# Altium integrated library Atmel Microcontroller ARM.IntLib: 148 symbols (part 10 of 11)
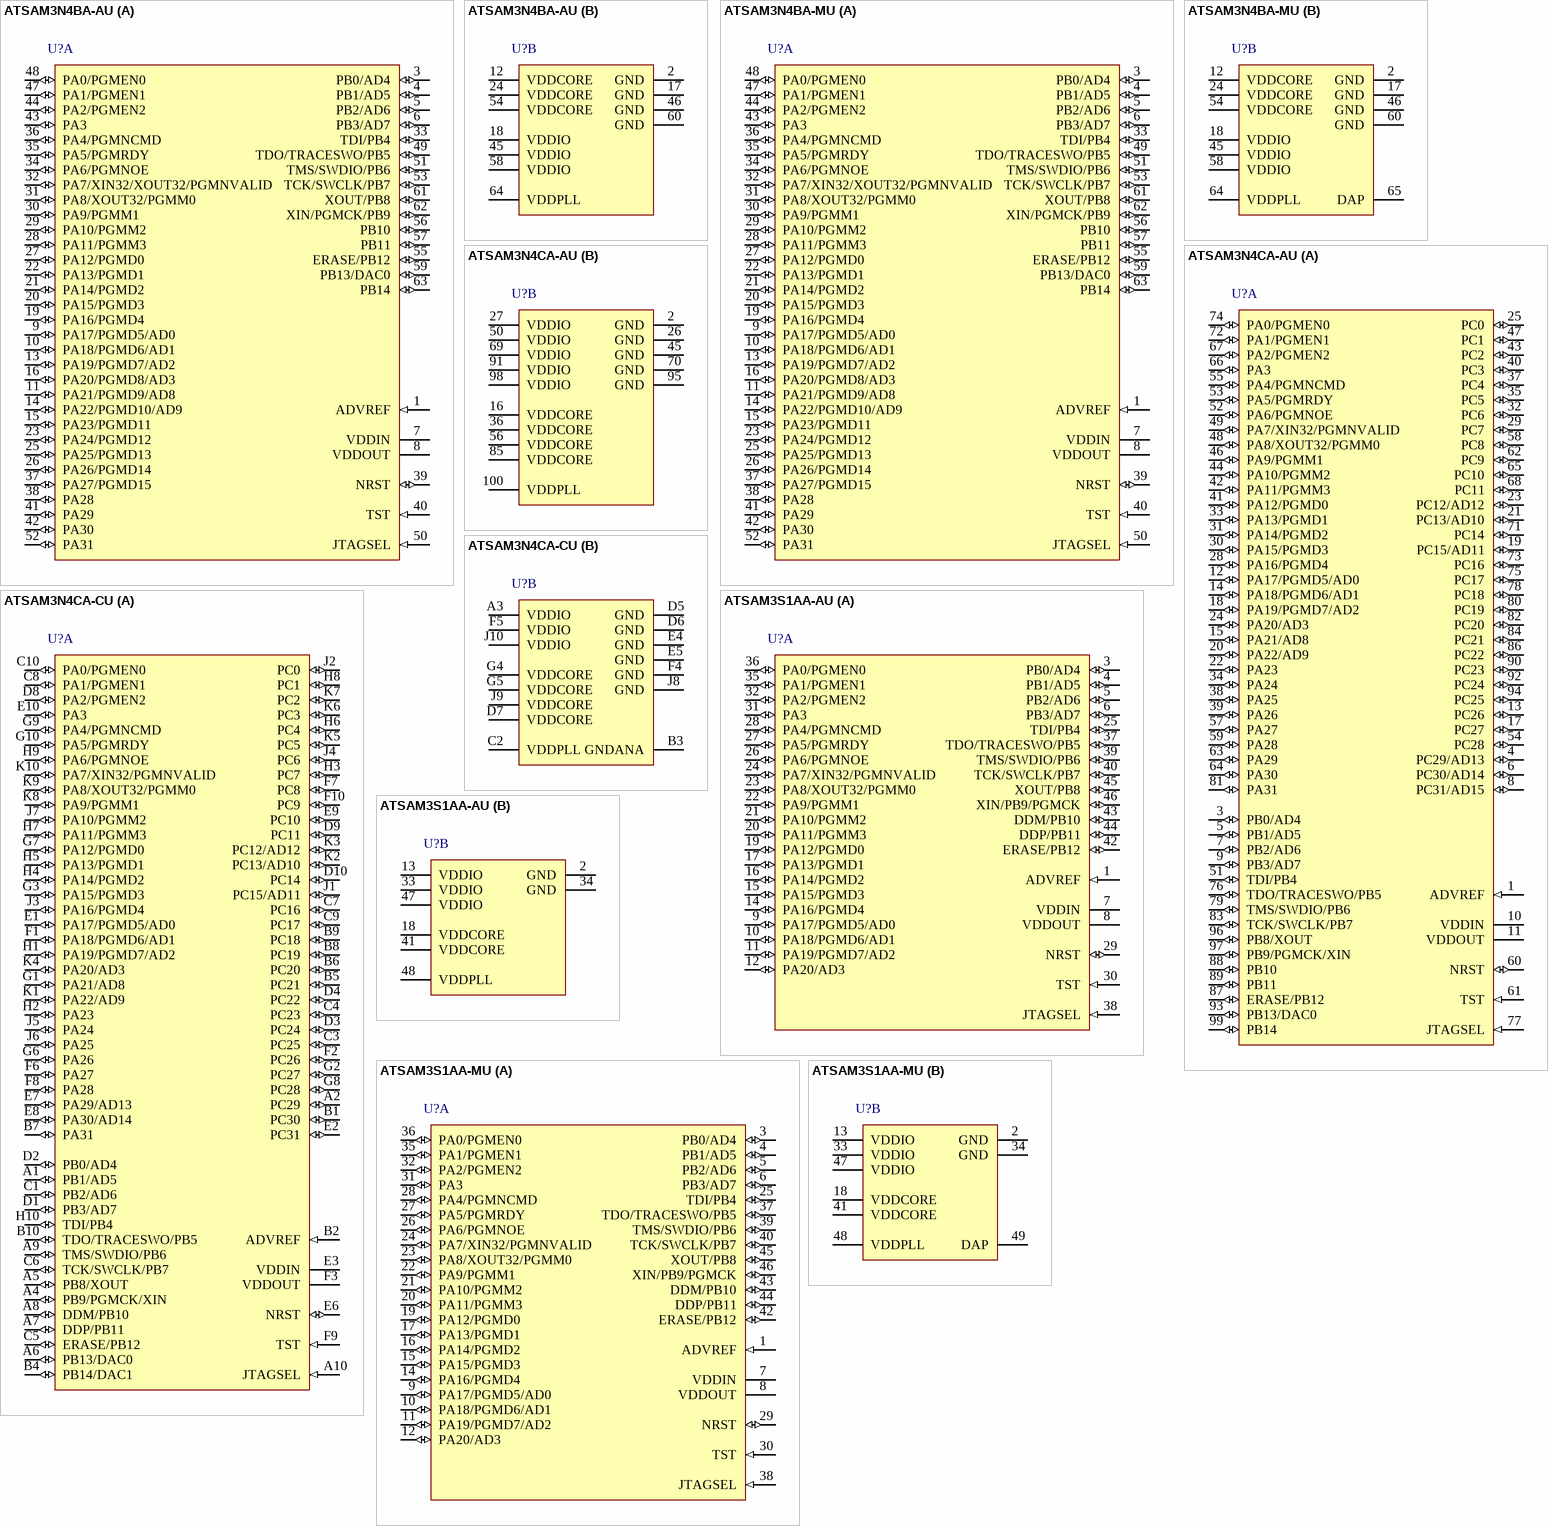
[diagram p70: symbols ATSAM3N4BA-AU to ATSAM3S1AA-MU]

## ATSAM3N4BA-MU
designator U?
AT91 ARM Cortex-M3 32-bit Microcontroller, 256KB Flash, 24KB SRAM, 10-ch. ADC, 47 User I/Os, 64-Pin QFN, Industrial Grade (-40°C to 85°C), Pb-Free; DatasheetVersion: revA, Nov-2010; PackageVersion: Apr-2006; PackageReference: QFN64; PackageDescription: 64-Pin Quad Flat No-Lead 0.5 mm Pitch; Code_JEDEC: MO-220; ComponentLink1Description: Manufacturer URL; ComponentLink1URL: http://www.atmel.com/; ComponentLink2Description: SAM3N Series Datasheet; ComponentLink2URL: http://www.atmel.com/dyn/resources/prod_documents/doc11011.pdf; ComponentLink3Description: SAM3N Series Summary; ComponentLink3URL: http://www.atmel.com/dyn/resources/prod_documents/11011s.pdf
footprint QFN64_N (QFN, 64-Leads, Body 9x9mm, Pitch 0.5mm, Thermal Pad 7.3x7.3mm, IPC Medium Density)
footprint QFN64_L (QFN, 64-Leads, Body 9x9mm, Pitch 0.5mm, Thermal Pad 7.3x7.3mm, IPC High Density)
footprint QFN64_M (QFN, 64-Leads, Body 9x9mm, Pitch 0.5mm, Thermal Pad 7.3x7.3mm, IPC Low Density)
part A pins: 1 ADVREF (in), 3 PB0/AD4 (io), 4 PB1/AD5 (io), 5 PB2/AD6 (io), 6 PB3/AD7 (io), 7 VDDIN (power), 8 VDDOUT (power), 9 PA17/PGMD5/AD0 (io), 10 PA18/PGMD6/AD1 (io), 11 PA21/PGMD9/AD8 (io), 13 PA19/PGMD7/AD2 (io), 14 PA22/PGMD10/AD9 (io), 15 PA23/PGMD11 (io), 16 PA20/PGMD8/AD3 (io), 19 PA16/PGMD4 (io), 20 PA15/PGMD3 (io), 21 PA14/PGMD2 (io), 22 PA13/PGMD1 (io), 23 PA24/PGMD12 (io), 25 PA25/PGMD13 (io), 26 PA26/PGMD14 (io), 27 PA12/PGMD0 (io), 28 PA11/PGMM3 (io), 29 PA10/PGMM2 (io), 30 PA9/PGMM1 (io), 31 PA8/XOUT32/PGMM0 (io), 32 PA7/XIN32/XOUT32/PGMNVALID (io), 33 TDI/PB4 (io), 34 PA6/PGMNOE (io), 35 PA5/PGMRDY (io), 36 PA4/PGMNCMD (io), 37 PA27/PGMD15 (io), 38 PA28 (io), 39 NRST (io), 40 TST (in), 41 PA29 (io), 42 PA30 (io), 43 PA3 (io), 44 PA2/PGMEN2 (io), 47 PA1/PGMEN1 (io), 48 PA0/PGMEN0 (io), 49 TDO/TRACESWO/PB5 (io), 50 JTAGSEL (in), 51 TMS/SWDIO/PB6 (io), 52 PA31 (io), 53 TCK/SWCLK/PB7 (io), 55 ERASE/PB12 (io), 56 PB10 (io), 57 PB11 (io), 59 PB13/DAC0 (io), 61 XOUT/PB8 (io), 62 XIN/PGMCK/PB9 (io), 63 PB14 (io)
part B pins: 2 GND (power), 12 VDDCORE (power), 17 GND (power), 18 VDDIO (power), 24 VDDCORE (power), 45 VDDIO (power), 46 GND (power), 54 VDDCORE (power), 58 VDDIO (power), 60 GND (power), 64 VDDPLL (power), 65 DAP (power)

## ATSAM3N4CA-AU
designator U?
AT91 ARM Cortex-M3 32-bit Microcontroller, 256KB Flash, 24KB SRAM, 16-ch. ADC, 79 User I/Os, 100-Pin LQFP, Industrial Grade (-40°C to 85°C), Pb-Free; DatasheetVersion: revA, Nov-2010; PackageVersion: Apr-2006; PackageReference: LQFP100; PackageDescription: 100-Pin Thin Quad Flat Pack 0.5 mm Pitch; Code_JEDEC: MS-026-BED; ComponentLink1Description: Manufacturer URL; ComponentLink1URL: http://www.atmel.com/; ComponentLink2Description: SAM3N Series Datasheet; ComponentLink2URL: http://www.atmel.com/dyn/resources/prod_documents/doc11011.pdf; ComponentLink3Description: SAM3N Series Summary; ComponentLink3URL: http://www.atmel.com/dyn/resources/prod_documents/11011s.pdf
footprint LQFP100_N (Thin QFP, 100-Leads, Body 14x14mm, Pitch 0.5mm, IPC Medium Density)
footprint LQFP100_L (Thin QFP, 100-Leads, Body 14x14mm, Pitch 0.5mm, IPC High Density)
footprint LQFP100_M (Thin QFP, 100-Leads, Body 14x14mm, Pitch 0.5mm, IPC Low Density)
part A pins: 1 ADVREF (in), 3 PB0/AD4 (io), 4 PC29/AD13 (io), 5 PB1/AD5 (io), 6 PC30/AD14 (io), 7 PB2/AD6 (io), 8 PC31/AD15 (io), 9 PB3/AD7 (io), 10 VDDIN (power), 11 VDDOUT (power), 12 PA17/PGMD5/AD0 (io), 13 PC26 (io), 14 PA18/PGMD6/AD1 (io), 15 PA21/AD8 (io), 17 PC27 (io), 18 PA19/PGMD7/AD2 (io), 19 PC15/AD11 (io), 20 PA22/AD9 (io), 21 PC13/AD10 (io), 22 PA23 (io), 23 PC12/AD12 (io), 24 PA20/AD3 (io), 25 PC0 (io), 28 PA16/PGMD4 (io), 29 PC7 (io), 30 PA15/PGMD3 (io), 31 PA14/PGMD2 (io), 32 PC6 (io), 33 PA13/PGMD1 (io), 34 PA24 (io), 35 PC5 (io), 37 PC4 (io), 38 PA25 (io), 39 PA26 (io), 40 PC3 (io), 41 PA12/PGMD0 (io), 42 PA11/PGMM3 (io), 43 PC2 (io), 44 PA10/PGMM2 (io), 46 PA9/PGMM1 (io), 47 PC1 (io), 48 PA8/XOUT32/PGMM0 (io), 49 PA7/XIN32/PGMNVALID (io), 51 TDI/PB4 (io), 52 PA6/PGMNOE (io), 53 PA5/PGMRDY (io), 54 PC28 (io), 55 PA4/PGMNCMD (io), 57 PA27 (io), 58 PC8 (io), 59 PA28 (io), 60 NRST (io), 61 TST (in), 62 PC9 (io), 63 PA29 (io), 64 PA30 (io), 65 PC10 (io), 66 PA3 (io), 67 PA2/PGMEN2 (io), 68 PC11 (io), 71 PC14 (io), 72 PA1/PGMEN1 (io), 73 PC16 (io), 74 PA0/PGMEN0 (io), 75 PC17 (io), 76 TDO/TRACESWO/PB5 (io), 77 JTAGSEL (in), 78 PC18 (io), 79 TMS/SWDIO/PB6 (io), 80 PC19 (io), 81 PA31 (io), 82 PC20 (io), 83 TCK/SWCLK/PB7 (io), 84 PC21 (io), 86 PC22 (io), 87 ERASE/PB12 (io), 88 PB10 (io), 89 PB11 (io), 90 PC23 (io), 92 PC24 (io), 93 PB13/DAC0 (io), 94 PC25 (io), 96 PB8/XOUT (io), 97 PB9/PGMCK/XIN (io), 99 PB14 (io)
part B pins: 2 GND (power), 16 VDDCORE (power), 26 GND (power), 27 VDDIO (power), 36 VDDCORE (power), 45 GND (power), 50 VDDIO (power), 56 VDDCORE (power), 69 VDDIO (power), 70 GND (power), 85 VDDCORE (power), 91 VDDIO (power), 95 GND (power), 98 VDDIO (power), 100 VDDPLL (power)

## ATSAM3N4CA-CU
designator U?
AT91 ARM Cortex-M3 32-bit Microcontroller, 256KB Flash, 24KB SRAM, 16-ch. ADC, 79 User I/Os, 100-Pin LFBGA, Industrial Grade (-40°C to 85°C), Pb-Free; DatasheetVersion: revA, Nov-2010; PackageVersion: 2004; PackageReference: TFBGA100; PackageDescription: 100-Ball Thin Fine Ball Grid Array, 9 x 9 x1.1 mm Body, 0.80 mm Pitch; ComponentLink1Description: Manufacturer URL; ComponentLink1URL: http://www.atmel.com/; ComponentLink2Description: SAM3N Series Datasheet; ComponentLink2URL: http://www.atmel.com/dyn/resources/prod_documents/doc11011.pdf; ComponentLink3Description: SAM3N Series Summary; ComponentLink3URL: http://www.atmel.com/dyn/resources/prod_documents/11011s.pdf
footprint TFBGA100 (BGA, 100-Leads, Body 9x9mm, Pitch 0.8mm)
part A pins: A1 PB1/AD5 (io), A2 PC29 (io), A4 PB9/PGMCK/XIN (io), A5 PB8/XOUT (io), A6 PB13/DAC0 (io), A7 DDP/PB11 (io), A8 DDM/PB10 (io), A9 TMS/SWDIO/PB6 (io), A10 JTAGSEL (in), B1 PC30 (io), B2 ADVREF (in), B4 PB14/DAC1 (io), B5 PC21 (io), B6 PC20 (io), B7 PA31 (io), B8 PC19 (io), B9 PC18 (io), B10 TDO/TRACESWO/PB5 (io), C1 PB2/AD6 (io), C3 PC25 (io), C4 PC23 (io), C5 ERASE/PB12 (io), C6 TCK/SWCLK/PB7 (io), C7 PC16 (io), C8 PA1/PGMEN1 (io), C9 PC17 (io), C10 PA0/PGMEN0 (io), D1 PB3/AD7 (io), D2 PB0/AD4 (io), D3 PC24 (io), D4 PC22 (io), D8 PA2/PGMEN2 (io), D9 PC11 (io), D10 PC14 (io), E1 PA17/PGMD5/AD0 (io), E2 PC31 (io), E3 VDDIN (power), E6 NRST (io), E7 PA29/AD13 (io), E8 PA30/AD14 (io), E9 PC10 (io), E10 PA3 (io), F1 PA18/PGMD6/AD1 (io), F2 PC26 (io), F3 VDDOUT (power), F6 PA27 (io), F7 PC8 (io), F8 PA28 (io), F9 TST (in), F10 PC9 (io), G1 PA21/AD8 (io), G2 PC27 (io), G3 PA15/PGMD3 (io), G6 PA26 (io), G7 PA12/PGMD0 (io), G8 PC28 (io), G9 PA4/PGMNCMD (io), G10 PA5/PGMRDY (io), H1 PA19/PGMD7/AD2 (io), H2 PA23 (io), H3 PC7 (io), H4 PA14/PGMD2 (io), H5 PA13/PGMD1 (io), H6 PC4 (io), H7 PA11/PGMM3 (io), H8 PC1 (io), H9 PA6/PGMNOE (io), H10 TDI/PB4 (io), J1 PC15/AD11 (io), J2 PC0 (io), J3 PA16/PGMD4 (io), J4 PC6 (io), J5 PA24 (io), J6 PA25 (io), J7 PA10/PGMM2 (io), K1 PA22/AD9 (io), K2 PC13/AD10 (io), K3 PC12/AD12 (io), K4 PA20/AD3 (io), K5 PC5 (io), K6 PC3 (io), K7 PC2 (io), K8 PA9/PGMM1 (io), K9 PA8/XOUT32/PGMM0 (io), K10 PA7/XIN32/PGMNVALID (io)
part B pins: A3 VDDIO (power), B3 GNDANA (power), C2 VDDPLL (power), D5 GND (power), D6 GND (power), D7 VDDCORE (power), E4 GND (power), E5 GND (power), F4 GND (power), F5 VDDIO (power), G4 VDDCORE (power), G5 VDDCORE (power), J8 GND (power), J9 VDDCORE (power), J10 VDDIO (power)

## ATSAM3S1AA-AU
designator U?
AT91 ARM Cortex-M3 32-bit Microcontroller, 64KB Flash, 16KB SRAM, 8-ch. ADC, 34 User I/Os, 48-Pin LQFP, Industrial Grade (-40°C to 85°C), Pb-Free; DatasheetVersion: revC, Feb-2011; PackageVersion: revC, Oct-2001; PackageReference: 48AA; PackageDescription: 48-Pin Plastic Low Profile Quad Flat Pack (LQFP), 7 x 7 x 1.4 mm Body, 0.5 mm Pitch; Code_JEDEC: MS-026-BBC; ComponentLink1Description: Manufacturer URL; ComponentLink1URL: http://www.atmel.com/; ComponentLink2Description: SAM3S Series Datasheet; ComponentLink2URL: http://www.atmel.com/dyn/resources/prod_documents/doc6500.pdf; ComponentLink3Description: SAM3S Series Summary; ComponentLink3URL: http://www.atmel.com/dyn/resources/prod_documents/6500s.pdf
footprint 48AA_N (Thin QFP, 48-Leads, Body 7x7mm, Pitch 0.5mm, IPC Medium Density)
footprint 48AA_L (Thin QFP, 48-Leads, Body 7x7mm, Pitch 0.5mm, IPC High Density)
footprint 48AA_M (Thin QFP, 48-Leads, Body 7x7mm, Pitch 0.5mm, IPC Low Density)
part A pins: 1 ADVREF (in), 3 PB0/AD4 (io), 4 PB1/AD5 (io), 5 PB2/AD6 (io), 6 PB3/AD7 (io), 7 VDDIN (power), 8 VDDOUT (power), 9 PA17/PGMD5/AD0 (io), 10 PA18/PGMD6/AD1 (io), 11 PA19/PGMD7/AD2 (io), 12 PA20/AD3 (io), 14 PA16/PGMD4 (io), 15 PA15/PGMD3 (io), 16 PA14/PGMD2 (io), 17 PA13/PGMD1 (io), 19 PA12/PGMD0 (io), 20 PA11/PGMM3 (io), 21 PA10/PGMM2 (io), 22 PA9/PGMM1 (io), 23 PA8/XOUT32/PGMM0 (io), 24 PA7/XIN32/PGMNVALID (io), 25 TDI/PB4 (io), 26 PA6/PGMNOE (io), 27 PA5/PGMRDY (io), 28 PA4/PGMNCMD (io), 29 NRST (io), 30 TST (in), 31 PA3 (io), 32 PA2/PGMEN2 (io), 35 PA1/PGMEN1 (io), 36 PA0/PGMEN0 (io), 37 TDO/TRACESWO/PB5 (io), 38 JTAGSEL (in), 39 TMS/SWDIO/PB6 (io), 40 TCK/SWCLK/PB7 (io), 42 ERASE/PB12 (io), 43 DDM/PB10 (io), 44 DDP/PB11 (io), 45 XOUT/PB8 (io), 46 XIN/PB9/PGMCK (io)
part B pins: 2 GND (power), 13 VDDIO (power), 18 VDDCORE (power), 33 VDDIO (power), 34 GND (power), 41 VDDCORE (power), 47 VDDIO (power), 48 VDDPLL (power)

## ATSAM3S1AA-MU
designator U?
AT91 ARM Cortex-M3 32-bit Microcontroller, 64KB Flash, 16KB SRAM, 8-ch. ADC, 34 User I/Os, 48-Pin QFN, Industrial Grade (-40°C to 85°C), Pb-Free; DatasheetVersion: revC, Feb-2011; PackageVersion: Apr-2006; PackageReference: QFN48; PackageDescription: 48-Pin Quad Flat No-Lead 0.5 mm Pitch; ComponentLink1Description: Manufacturer URL; ComponentLink1URL: http://www.atmel.com/; ComponentLink2Description: SAM3S Series Datasheet; ComponentLink2URL: http://www.atmel.com/dyn/resources/prod_documents/doc6500.pdf; ComponentLink3Description: SAM3S Series Summary; ComponentLink3URL: http://www.atmel.com/dyn/resources/prod_documents/6500s.pdf
footprint QFN48_N (QFN, 48-Leads, Body 7x7mm, Pitch 0.5mm, Thermal Pad 5.8x5.8mm, IPC Medium Density)
footprint QFN48_L (QFN, 48-Leads, Body 7x7mm, Pitch 0.5mm, Thermal Pad 5.8x5.8mm, IPC High Density)
footprint QFN48_M (QFN, 48-Leads, Body 7x7mm, Pitch 0.5mm, Thermal Pad 5.8x5.8mm, IPC Low Density)
part A pins: 1 ADVREF (in), 3 PB0/AD4 (io), 4 PB1/AD5 (io), 5 PB2/AD6 (io), 6 PB3/AD7 (io), 7 VDDIN (power), 8 VDDOUT (power), 9 PA17/PGMD5/AD0 (io), 10 PA18/PGMD6/AD1 (io), 11 PA19/PGMD7/AD2 (io), 12 PA20/AD3 (io), 14 PA16/PGMD4 (io), 15 PA15/PGMD3 (io), 16 PA14/PGMD2 (io), 17 PA13/PGMD1 (io), 19 PA12/PGMD0 (io), 20 PA11/PGMM3 (io), 21 PA10/PGMM2 (io), 22 PA9/PGMM1 (io), 23 PA8/XOUT32/PGMM0 (io), 24 PA7/XIN32/PGMNVALID (io), 25 TDI/PB4 (io), 26 PA6/PGMNOE (io), 27 PA5/PGMRDY (io), 28 PA4/PGMNCMD (io), 29 NRST (io), 30 TST (in), 31 PA3 (io), 32 PA2/PGMEN2 (io), 35 PA1/PGMEN1 (io), 36 PA0/PGMEN0 (io), 37 TDO/TRACESWO/PB5 (io), 38 JTAGSEL (in), 39 TMS/SWDIO/PB6 (io), 40 TCK/SWCLK/PB7 (io), 42 ERASE/PB12 (io), 43 DDM/PB10 (io), 44 DDP/PB11 (io), 45 XOUT/PB8 (io), 46 XIN/PB9/PGMCK (io)
part B pins: 2 GND (power), 13 VDDIO (power), 18 VDDCORE (power), 33 VDDIO (power), 34 GND (power), 41 VDDCORE (power), 47 VDDIO (power), 48 VDDPLL (power), 49 DAP (power)

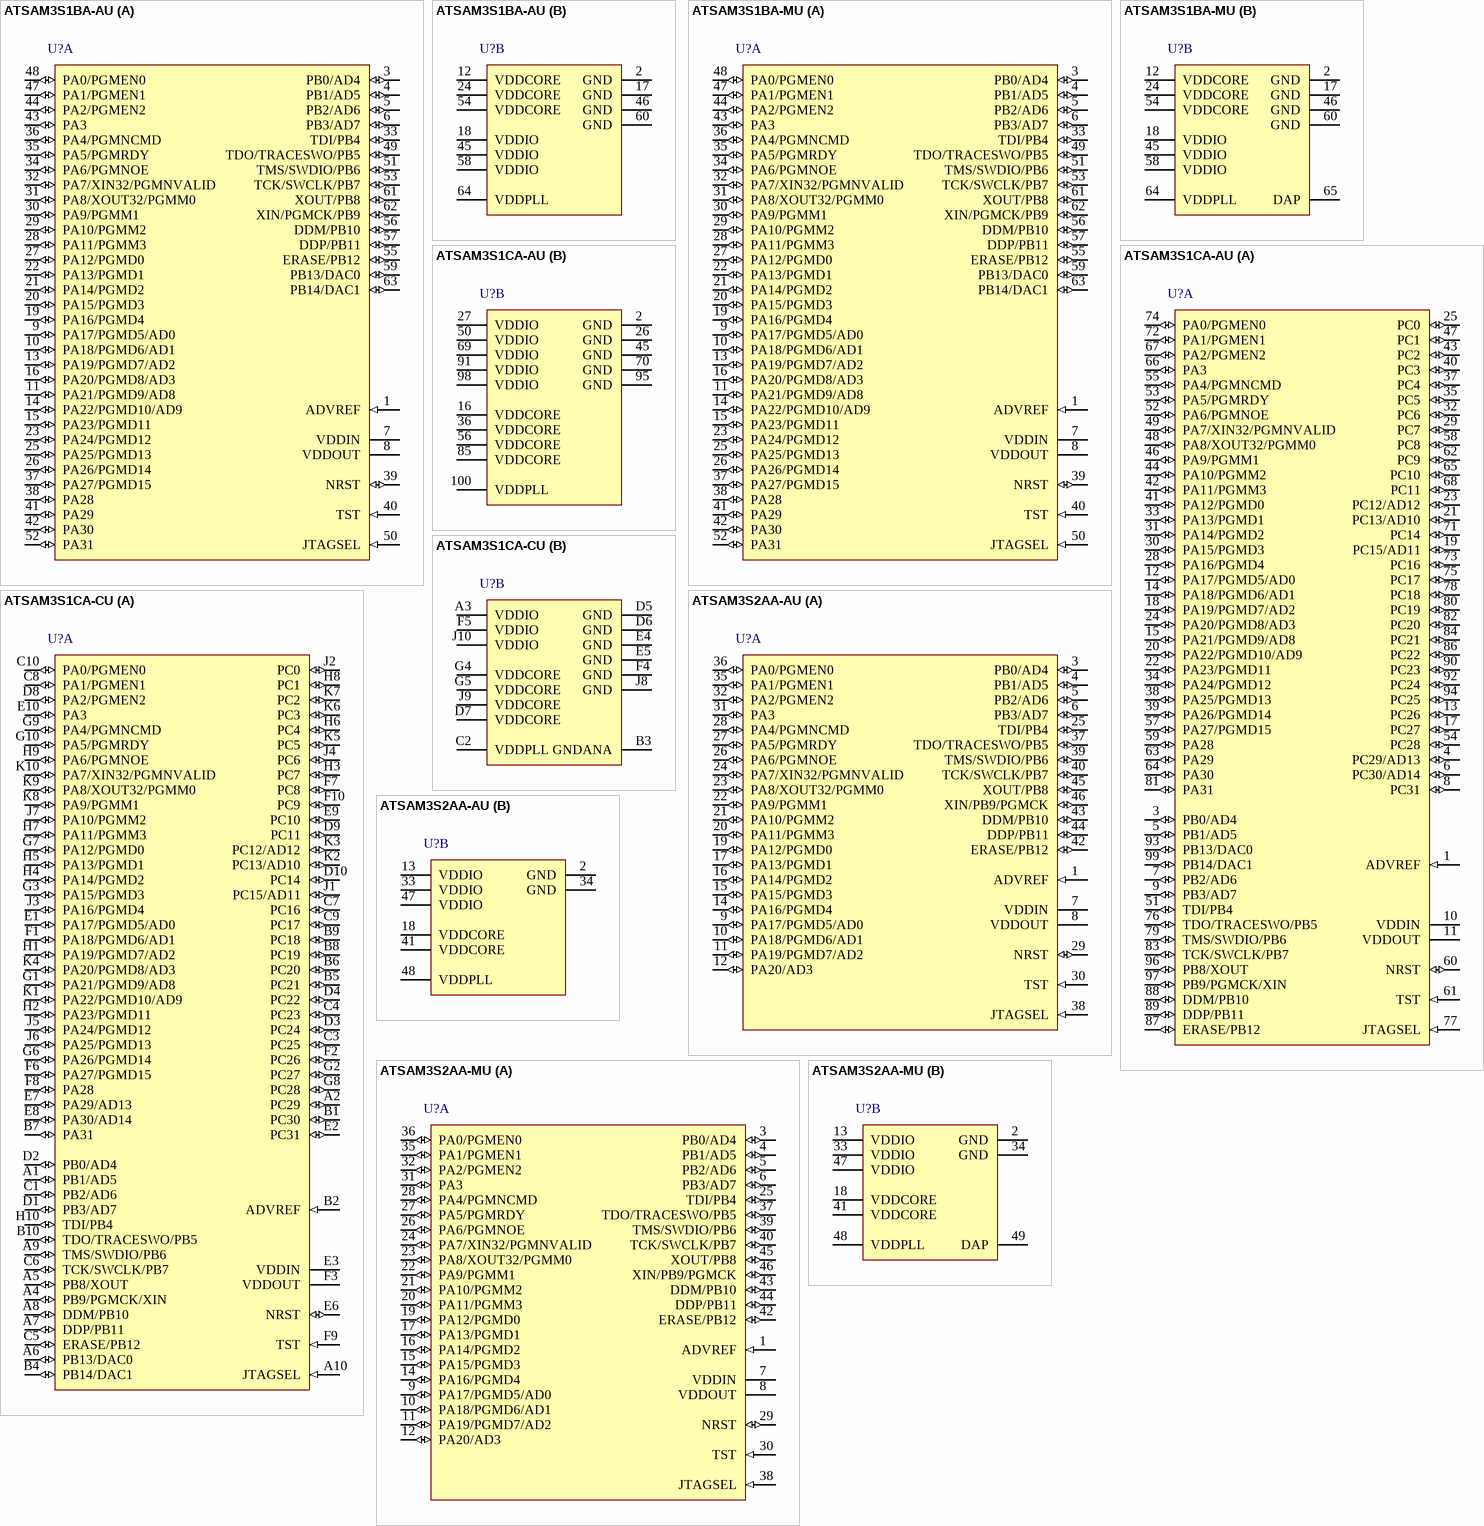
[diagram p55: symbols ATSAM3S1BA-AU to ATSAM3S2AA-MU]

## ATSAM3S1BA-AU
designator U?
AT91 ARM Cortex-M3 32-bit Microcontroller, 64KB Flash, 16KB SRAM, 10-ch. ADC, 47 User I/Os, 64-Pin LQFP, Industrial Grade (-40°C to 85°C), Pb-Free; DatasheetVersion: revC, Feb-2011; PackageVersion: Apr-2006; PackageReference: LQFP64; PackageDescription: 64-Pin Thin Quad Flat Pack 0.5 mm Pitch; Code_JEDEC: MS-026-BCD; ComponentLink1Description: Manufacturer URL; ComponentLink1URL: http://www.atmel.com/; ComponentLink2Description: SAM3S Series Datasheet; ComponentLink2URL: http://www.atmel.com/dyn/resources/prod_documents/doc6500.pdf; ComponentLink3Description: SAM3S Series Summary; ComponentLink3URL: http://www.atmel.com/dyn/resources/prod_documents/6500s.pdf
footprint LQFP64_N (Thin QFP, 64-Leads, Body 10x10mm, Pitch 0.5mm, IPC Medium Density)
footprint LQFP64_L (Thin QFP, 64-Leads, Body 10x10mm, Pitch 0.5mm, IPC High Density)
footprint LQFP64_M (Thin QFP, 64-Leads, Body 10x10mm, Pitch 0.5mm, IPC Low Density)
part A pins: 1 ADVREF (in), 3 PB0/AD4 (io), 4 PB1/AD5 (io), 5 PB2/AD6 (io), 6 PB3/AD7 (io), 7 VDDIN (power), 8 VDDOUT (power), 9 PA17/PGMD5/AD0 (io), 10 PA18/PGMD6/AD1 (io), 11 PA21/PGMD9/AD8 (io), 13 PA19/PGMD7/AD2 (io), 14 PA22/PGMD10/AD9 (io), 15 PA23/PGMD11 (io), 16 PA20/PGMD8/AD3 (io), 19 PA16/PGMD4 (io), 20 PA15/PGMD3 (io), 21 PA14/PGMD2 (io), 22 PA13/PGMD1 (io), 23 PA24/PGMD12 (io), 25 PA25/PGMD13 (io), 26 PA26/PGMD14 (io), 27 PA12/PGMD0 (io), 28 PA11/PGMM3 (io), 29 PA10/PGMM2 (io), 30 PA9/PGMM1 (io), 31 PA8/XOUT32/PGMM0 (io), 32 PA7/XIN32/PGMNVALID (io), 33 TDI/PB4 (io), 34 PA6/PGMNOE (io), 35 PA5/PGMRDY (io), 36 PA4/PGMNCMD (io), 37 PA27/PGMD15 (io), 38 PA28 (io), 39 NRST (io), 40 TST (in), 41 PA29 (io), 42 PA30 (io), 43 PA3 (io), 44 PA2/PGMEN2 (io), 47 PA1/PGMEN1 (io), 48 PA0/PGMEN0 (io), 49 TDO/TRACESWO/PB5 (io), 50 JTAGSEL (in), 51 TMS/SWDIO/PB6 (io), 52 PA31 (io), 53 TCK/SWCLK/PB7 (io), 55 ERASE/PB12 (io), 56 DDM/PB10 (io), 57 DDP/PB11 (io), 59 PB13/DAC0 (io), 61 XOUT/PB8 (io), 62 XIN/PGMCK/PB9 (io), 63 PB14/DAC1 (io)
part B pins: 2 GND (power), 12 VDDCORE (power), 17 GND (power), 18 VDDIO (power), 24 VDDCORE (power), 45 VDDIO (power), 46 GND (power), 54 VDDCORE (power), 58 VDDIO (power), 60 GND (power), 64 VDDPLL (power)

## ATSAM3S1BA-MU
designator U?
AT91 ARM Cortex-M3 32-bit Microcontroller, 64KB Flash, 16KB SRAM, 10-ch. ADC, 47 User I/Os, 64-Pin QFN, Industrial Grade (-40°C to 85°C), Pb-Free; DatasheetVersion: revC, Feb-2011; PackageVersion: Apr-2006; PackageReference: QFN64; PackageDescription: 64-Pin Quad Flat No-Lead 0.5 mm Pitch; Code_JEDEC: MO-220; ComponentLink1Description: Manufacturer URL; ComponentLink1URL: http://www.atmel.com/; ComponentLink2Description: SAM3S Series Datasheet; ComponentLink2URL: http://www.atmel.com/dyn/resources/prod_documents/doc6500.pdf; ComponentLink3Description: SAM3S Series Summary; ComponentLink3URL: http://www.atmel.com/dyn/resources/prod_documents/6500s.pdf
footprint QFN64_N (QFN, 64-Leads, Body 9x9mm, Pitch 0.5mm, Thermal Pad 7.3x7.3mm, IPC Medium Density)
footprint QFN64_L (QFN, 64-Leads, Body 9x9mm, Pitch 0.5mm, Thermal Pad 7.3x7.3mm, IPC High Density)
footprint QFN64_M (QFN, 64-Leads, Body 9x9mm, Pitch 0.5mm, Thermal Pad 7.3x7.3mm, IPC Low Density)
part A pins: 1 ADVREF (in), 3 PB0/AD4 (io), 4 PB1/AD5 (io), 5 PB2/AD6 (io), 6 PB3/AD7 (io), 7 VDDIN (power), 8 VDDOUT (power), 9 PA17/PGMD5/AD0 (io), 10 PA18/PGMD6/AD1 (io), 11 PA21/PGMD9/AD8 (io), 13 PA19/PGMD7/AD2 (io), 14 PA22/PGMD10/AD9 (io), 15 PA23/PGMD11 (io), 16 PA20/PGMD8/AD3 (io), 19 PA16/PGMD4 (io), 20 PA15/PGMD3 (io), 21 PA14/PGMD2 (io), 22 PA13/PGMD1 (io), 23 PA24/PGMD12 (io), 25 PA25/PGMD13 (io), 26 PA26/PGMD14 (io), 27 PA12/PGMD0 (io), 28 PA11/PGMM3 (io), 29 PA10/PGMM2 (io), 30 PA9/PGMM1 (io), 31 PA8/XOUT32/PGMM0 (io), 32 PA7/XIN32/PGMNVALID (io), 33 TDI/PB4 (io), 34 PA6/PGMNOE (io), 35 PA5/PGMRDY (io), 36 PA4/PGMNCMD (io), 37 PA27/PGMD15 (io), 38 PA28 (io), 39 NRST (io), 40 TST (in), 41 PA29 (io), 42 PA30 (io), 43 PA3 (io), 44 PA2/PGMEN2 (io), 47 PA1/PGMEN1 (io), 48 PA0/PGMEN0 (io), 49 TDO/TRACESWO/PB5 (io), 50 JTAGSEL (in), 51 TMS/SWDIO/PB6 (io), 52 PA31 (io), 53 TCK/SWCLK/PB7 (io), 55 ERASE/PB12 (io), 56 DDM/PB10 (io), 57 DDP/PB11 (io), 59 PB13/DAC0 (io), 61 XOUT/PB8 (io), 62 XIN/PGMCK/PB9 (io), 63 PB14/DAC1 (io)
part B pins: 2 GND (power), 12 VDDCORE (power), 17 GND (power), 18 VDDIO (power), 24 VDDCORE (power), 45 VDDIO (power), 46 GND (power), 54 VDDCORE (power), 58 VDDIO (power), 60 GND (power), 64 VDDPLL (power), 65 DAP (power)

## ATSAM3S1CA-AU
designator U?
AT91 ARM Cortex-M3 32-bit Microcontroller, 64KB Flash, 16KB SRAM, 16-ch. ADC, 79 User I/Os, 100-Pin LQFP, Industrial Grade (-40°C to 85°C), Pb-Free; DatasheetVersion: revC, Feb-2011; PackageVersion: Apr-2006; PackageReference: LQFP100; PackageDescription: 100-Pin Thin Quad Flat Pack 0.5 mm Pitch; Code_JEDEC: MS-026-BED; ComponentLink1Description: Manufacturer URL; ComponentLink1URL: http://www.atmel.com/; ComponentLink2Description: SAM3S Series Datasheet; ComponentLink2URL: http://www.atmel.com/dyn/resources/prod_documents/doc6500.pdf; ComponentLink3Description: SAM3S Series Summary; ComponentLink3URL: http://www.atmel.com/dyn/resources/prod_documents/6500s.pdf
footprint LQFP100_N (Thin QFP, 100-Leads, Body 14x14mm, Pitch 0.5mm, IPC Medium Density)
footprint LQFP100_L (Thin QFP, 100-Leads, Body 14x14mm, Pitch 0.5mm, IPC High Density)
footprint LQFP100_M (Thin QFP, 100-Leads, Body 14x14mm, Pitch 0.5mm, IPC Low Density)
part A pins: 1 ADVREF (in), 3 PB0/AD4 (io), 4 PC29/AD13 (io), 5 PB1/AD5 (io), 6 PC30/AD14 (io), 7 PB2/AD6 (io), 8 PC31 (io), 9 PB3/AD7 (io), 10 VDDIN (power), 11 VDDOUT (power), 12 PA17/PGMD5/AD0 (io), 13 PC26 (io), 14 PA18/PGMD6/AD1 (io), 15 PA21/PGMD9/AD8 (io), 17 PC27 (io), 18 PA19/PGMD7/AD2 (io), 19 PC15/AD11 (io), 20 PA22/PGMD10/AD9 (io), 21 PC13/AD10 (io), 22 PA23/PGMD11 (io), 23 PC12/AD12 (io), 24 PA20/PGMD8/AD3 (io), 25 PC0 (io), 28 PA16/PGMD4 (io), 29 PC7 (io), 30 PA15/PGMD3 (io), 31 PA14/PGMD2 (io), 32 PC6 (io), 33 PA13/PGMD1 (io), 34 PA24/PGMD12 (io), 35 PC5 (io), 37 PC4 (io), 38 PA25/PGMD13 (io), 39 PA26/PGMD14 (io), 40 PC3 (io), 41 PA12/PGMD0 (io), 42 PA11/PGMM3 (io), 43 PC2 (io), 44 PA10/PGMM2 (io), 46 PA9/PGMM1 (io), 47 PC1 (io), 48 PA8/XOUT32/PGMM0 (io), 49 PA7/XIN32/PGMNVALID (io), 51 TDI/PB4 (io), 52 PA6/PGMNOE (io), 53 PA5/PGMRDY (io), 54 PC28 (io), 55 PA4/PGMNCMD (io), 57 PA27/PGMD15 (io), 58 PC8 (io), 59 PA28 (io), 60 NRST (io), 61 TST (in), 62 PC9 (io), 63 PA29 (io), 64 PA30 (io), 65 PC10 (io), 66 PA3 (io), 67 PA2/PGMEN2 (io), 68 PC11 (io), 71 PC14 (io), 72 PA1/PGMEN1 (io), 73 PC16 (io), 74 PA0/PGMEN0 (io), 75 PC17 (io), 76 TDO/TRACESWO/PB5 (io), 77 JTAGSEL (in), 78 PC18 (io), 79 TMS/SWDIO/PB6 (io), 80 PC19 (io), 81 PA31 (io), 82 PC20 (io), 83 TCK/SWCLK/PB7 (io), 84 PC21 (io), 86 PC22 (io), 87 ERASE/PB12 (io), 88 DDM/PB10 (io), 89 DDP/PB11 (io), 90 PC23 (io), 92 PC24 (io), 93 PB13/DAC0 (io), 94 PC25 (io), 96 PB8/XOUT (io), 97 PB9/PGMCK/XIN (io), 99 PB14/DAC1 (io)
part B pins: 2 GND (power), 16 VDDCORE (power), 26 GND (power), 27 VDDIO (power), 36 VDDCORE (power), 45 GND (power), 50 VDDIO (power), 56 VDDCORE (power), 69 VDDIO (power), 70 GND (power), 85 VDDCORE (power), 91 VDDIO (power), 95 GND (power), 98 VDDIO (power), 100 VDDPLL (power)

## ATSAM3S1CA-CU
designator U?
AT91 ARM Cortex-M3 32-bit Microcontroller, 64KB Flash, 16KB SRAM, 16-ch. ADC, 79 User I/Os, 100-Pin BGA, Industrial Grade (-40°C to 85°C), Pb-Free; DatasheetVersion: revC, Feb-2011; PackageVersion: 2004; PackageReference: TFBGA100; PackageDescription: 100-Ball Thin Fine Ball Grid Array, 9 x 9 x1.1 mm Body, 0.80 mm Pitch; ComponentLink1Description: Manufacturer URL; ComponentLink1URL: http://www.atmel.com/; ComponentLink2Description: SAM3S Series Datasheet; ComponentLink2URL: http://www.atmel.com/dyn/resources/prod_documents/doc6500.pdf; ComponentLink3Description: SAM3S Series Summary; ComponentLink3URL: http://www.atmel.com/dyn/resources/prod_documents/6500s.pdf
footprint TFBGA100 (BGA, 100-Leads, Body 9x9mm, Pitch 0.8mm)
part A pins: A1 PB1/AD5 (io), A2 PC29 (io), A4 PB9/PGMCK/XIN (io), A5 PB8/XOUT (io), A6 PB13/DAC0 (io), A7 DDP/PB11 (io), A8 DDM/PB10 (io), A9 TMS/SWDIO/PB6 (io), A10 JTAGSEL (in), B1 PC30 (io), B2 ADVREF (in), B4 PB14/DAC1 (io), B5 PC21 (io), B6 PC20 (io), B7 PA31 (io), B8 PC19 (io), B9 PC18 (io), B10 TDO/TRACESWO/PB5 (io), C1 PB2/AD6 (io), C3 PC25 (io), C4 PC23 (io), C5 ERASE/PB12 (io), C6 TCK/SWCLK/PB7 (io), C7 PC16 (io), C8 PA1/PGMEN1 (io), C9 PC17 (io), C10 PA0/PGMEN0 (io), D1 PB3/AD7 (io), D2 PB0/AD4 (io), D3 PC24 (io), D4 PC22 (io), D8 PA2/PGMEN2 (io), D9 PC11 (io), D10 PC14 (io), E1 PA17/PGMD5/AD0 (io), E2 PC31 (io), E3 VDDIN (power), E6 NRST (io), E7 PA29/AD13 (io), E8 PA30/AD14 (io), E9 PC10 (io), E10 PA3 (io), F1 PA18/PGMD6/AD1 (io), F2 PC26 (io), F3 VDDOUT (power), F6 PA27/PGMD15 (io), F7 PC8 (io), F8 PA28 (io), F9 TST (in), F10 PC9 (io), G1 PA21/PGMD9/AD8 (io), G2 PC27 (io), G3 PA15/PGMD3 (io), G6 PA26/PGMD14 (io), G7 PA12/PGMD0 (io), G8 PC28 (io), G9 PA4/PGMNCMD (io), G10 PA5/PGMRDY (io), H1 PA19/PGMD7/AD2 (io), H2 PA23/PGMD11 (io), H3 PC7 (io), H4 PA14/PGMD2 (io), H5 PA13/PGMD1 (io), H6 PC4 (io), H7 PA11/PGMM3 (io), H8 PC1 (io), H9 PA6/PGMNOE (io), H10 TDI/PB4 (io), J1 PC15/AD11 (io), J2 PC0 (io), J3 PA16/PGMD4 (io), J4 PC6 (io), J5 PA24/PGMD12 (io), J6 PA25/PGMD13 (io), J7 PA10/PGMM2 (io), K1 PA22/PGMD10/AD9 (io), K2 PC13/AD10 (io), K3 PC12/AD12 (io), K4 PA20/PGMD8/AD3 (io), K5 PC5 (io), K6 PC3 (io), K7 PC2 (io), K8 PA9/PGMM1 (io), K9 PA8/XOUT32/PGMM0 (io), K10 PA7/XIN32/PGMNVALID (io)
part B pins: A3 VDDIO (power), B3 GNDANA (power), C2 VDDPLL (power), D5 GND (power), D6 GND (power), D7 VDDCORE (power), E4 GND (power), E5 GND (power), F4 GND (power), F5 VDDIO (power), G4 VDDCORE (power), G5 VDDCORE (power), J8 GND (power), J9 VDDCORE (power), J10 VDDIO (power)

## ATSAM3S2AA-AU
designator U?
AT91 ARM Cortex-M3 32-bit Microcontroller, 128KB Flash, 32KB SRAM, 8-ch. ADC, 34 User I/Os, 48-Pin LQFP, Industrial Grade (-40°C to 85°C), Pb-Free; DatasheetVersion: revC, Feb-2011; PackageVersion: revC, Oct-2001; PackageReference: 48AA; PackageDescription: 48-Pin Plastic Low Profile Quad Flat Pack (LQFP), 7 x 7 x 1.4 mm Body, 0.5 mm Pitch; Code_JEDEC: MS-026-BBC; ComponentLink1Description: Manufacturer URL; ComponentLink1URL: http://www.atmel.com/; ComponentLink2Description: SAM3S Series Datasheet; ComponentLink2URL: http://www.atmel.com/dyn/resources/prod_documents/doc6500.pdf; ComponentLink3Description: SAM3S Series Summary; ComponentLink3URL: http://www.atmel.com/dyn/resources/prod_documents/6500s.pdf
footprint 48AA_N (Thin QFP, 48-Leads, Body 7x7mm, Pitch 0.5mm, IPC Medium Density)
footprint 48AA_L (Thin QFP, 48-Leads, Body 7x7mm, Pitch 0.5mm, IPC High Density)
footprint 48AA_M (Thin QFP, 48-Leads, Body 7x7mm, Pitch 0.5mm, IPC Low Density)
part A pins: 1 ADVREF (in), 3 PB0/AD4 (io), 4 PB1/AD5 (io), 5 PB2/AD6 (io), 6 PB3/AD7 (io), 7 VDDIN (power), 8 VDDOUT (power), 9 PA17/PGMD5/AD0 (io), 10 PA18/PGMD6/AD1 (io), 11 PA19/PGMD7/AD2 (io), 12 PA20/AD3 (io), 14 PA16/PGMD4 (io), 15 PA15/PGMD3 (io), 16 PA14/PGMD2 (io), 17 PA13/PGMD1 (io), 19 PA12/PGMD0 (io), 20 PA11/PGMM3 (io), 21 PA10/PGMM2 (io), 22 PA9/PGMM1 (io), 23 PA8/XOUT32/PGMM0 (io), 24 PA7/XIN32/PGMNVALID (io), 25 TDI/PB4 (io), 26 PA6/PGMNOE (io), 27 PA5/PGMRDY (io), 28 PA4/PGMNCMD (io), 29 NRST (io), 30 TST (in), 31 PA3 (io), 32 PA2/PGMEN2 (io), 35 PA1/PGMEN1 (io), 36 PA0/PGMEN0 (io), 37 TDO/TRACESWO/PB5 (io), 38 JTAGSEL (in), 39 TMS/SWDIO/PB6 (io), 40 TCK/SWCLK/PB7 (io), 42 ERASE/PB12 (io), 43 DDM/PB10 (io), 44 DDP/PB11 (io), 45 XOUT/PB8 (io), 46 XIN/PB9/PGMCK (io)
part B pins: 2 GND (power), 13 VDDIO (power), 18 VDDCORE (power), 33 VDDIO (power), 34 GND (power), 41 VDDCORE (power), 47 VDDIO (power), 48 VDDPLL (power)

## ATSAM3S2AA-MU
designator U?
AT91 ARM Cortex-M3 32-bit Microcontroller, 128KB Flash, 32KB SRAM, 8-ch. ADC, 34 User I/Os, 48-Pin QFN, Industrial Grade (-40°C to 85°C), Pb-Free; DatasheetVersion: revC, Feb-2011; PackageVersion: Apr-2006; PackageReference: QFN48; PackageDescription: 48-Pin Quad Flat No-Lead 0.5 mm Pitch; ComponentLink1Description: Manufacturer URL; ComponentLink1URL: http://www.atmel.com/; ComponentLink2Description: SAM3S Series Datasheet; ComponentLink2URL: http://www.atmel.com/dyn/resources/prod_documents/doc6500.pdf; ComponentLink3Description: SAM3S Series Summary; ComponentLink3URL: http://www.atmel.com/dyn/resources/prod_documents/6500s.pdf
footprint QFN48_N (QFN, 48-Leads, Body 7x7mm, Pitch 0.5mm, Thermal Pad 5.8x5.8mm, IPC Medium Density)
footprint QFN48_L (QFN, 48-Leads, Body 7x7mm, Pitch 0.5mm, Thermal Pad 5.8x5.8mm, IPC High Density)
footprint QFN48_M (QFN, 48-Leads, Body 7x7mm, Pitch 0.5mm, Thermal Pad 5.8x5.8mm, IPC Low Density)
part A pins: 1 ADVREF (in), 3 PB0/AD4 (io), 4 PB1/AD5 (io), 5 PB2/AD6 (io), 6 PB3/AD7 (io), 7 VDDIN (power), 8 VDDOUT (power), 9 PA17/PGMD5/AD0 (io), 10 PA18/PGMD6/AD1 (io), 11 PA19/PGMD7/AD2 (io), 12 PA20/AD3 (io), 14 PA16/PGMD4 (io), 15 PA15/PGMD3 (io), 16 PA14/PGMD2 (io), 17 PA13/PGMD1 (io), 19 PA12/PGMD0 (io), 20 PA11/PGMM3 (io), 21 PA10/PGMM2 (io), 22 PA9/PGMM1 (io), 23 PA8/XOUT32/PGMM0 (io), 24 PA7/XIN32/PGMNVALID (io), 25 TDI/PB4 (io), 26 PA6/PGMNOE (io), 27 PA5/PGMRDY (io), 28 PA4/PGMNCMD (io), 29 NRST (io), 30 TST (in), 31 PA3 (io), 32 PA2/PGMEN2 (io), 35 PA1/PGMEN1 (io), 36 PA0/PGMEN0 (io), 37 TDO/TRACESWO/PB5 (io), 38 JTAGSEL (in), 39 TMS/SWDIO/PB6 (io), 40 TCK/SWCLK/PB7 (io), 42 ERASE/PB12 (io), 43 DDM/PB10 (io), 44 DDP/PB11 (io), 45 XOUT/PB8 (io), 46 XIN/PB9/PGMCK (io)
part B pins: 2 GND (power), 13 VDDIO (power), 18 VDDCORE (power), 33 VDDIO (power), 34 GND (power), 41 VDDCORE (power), 47 VDDIO (power), 48 VDDPLL (power), 49 DAP (power)

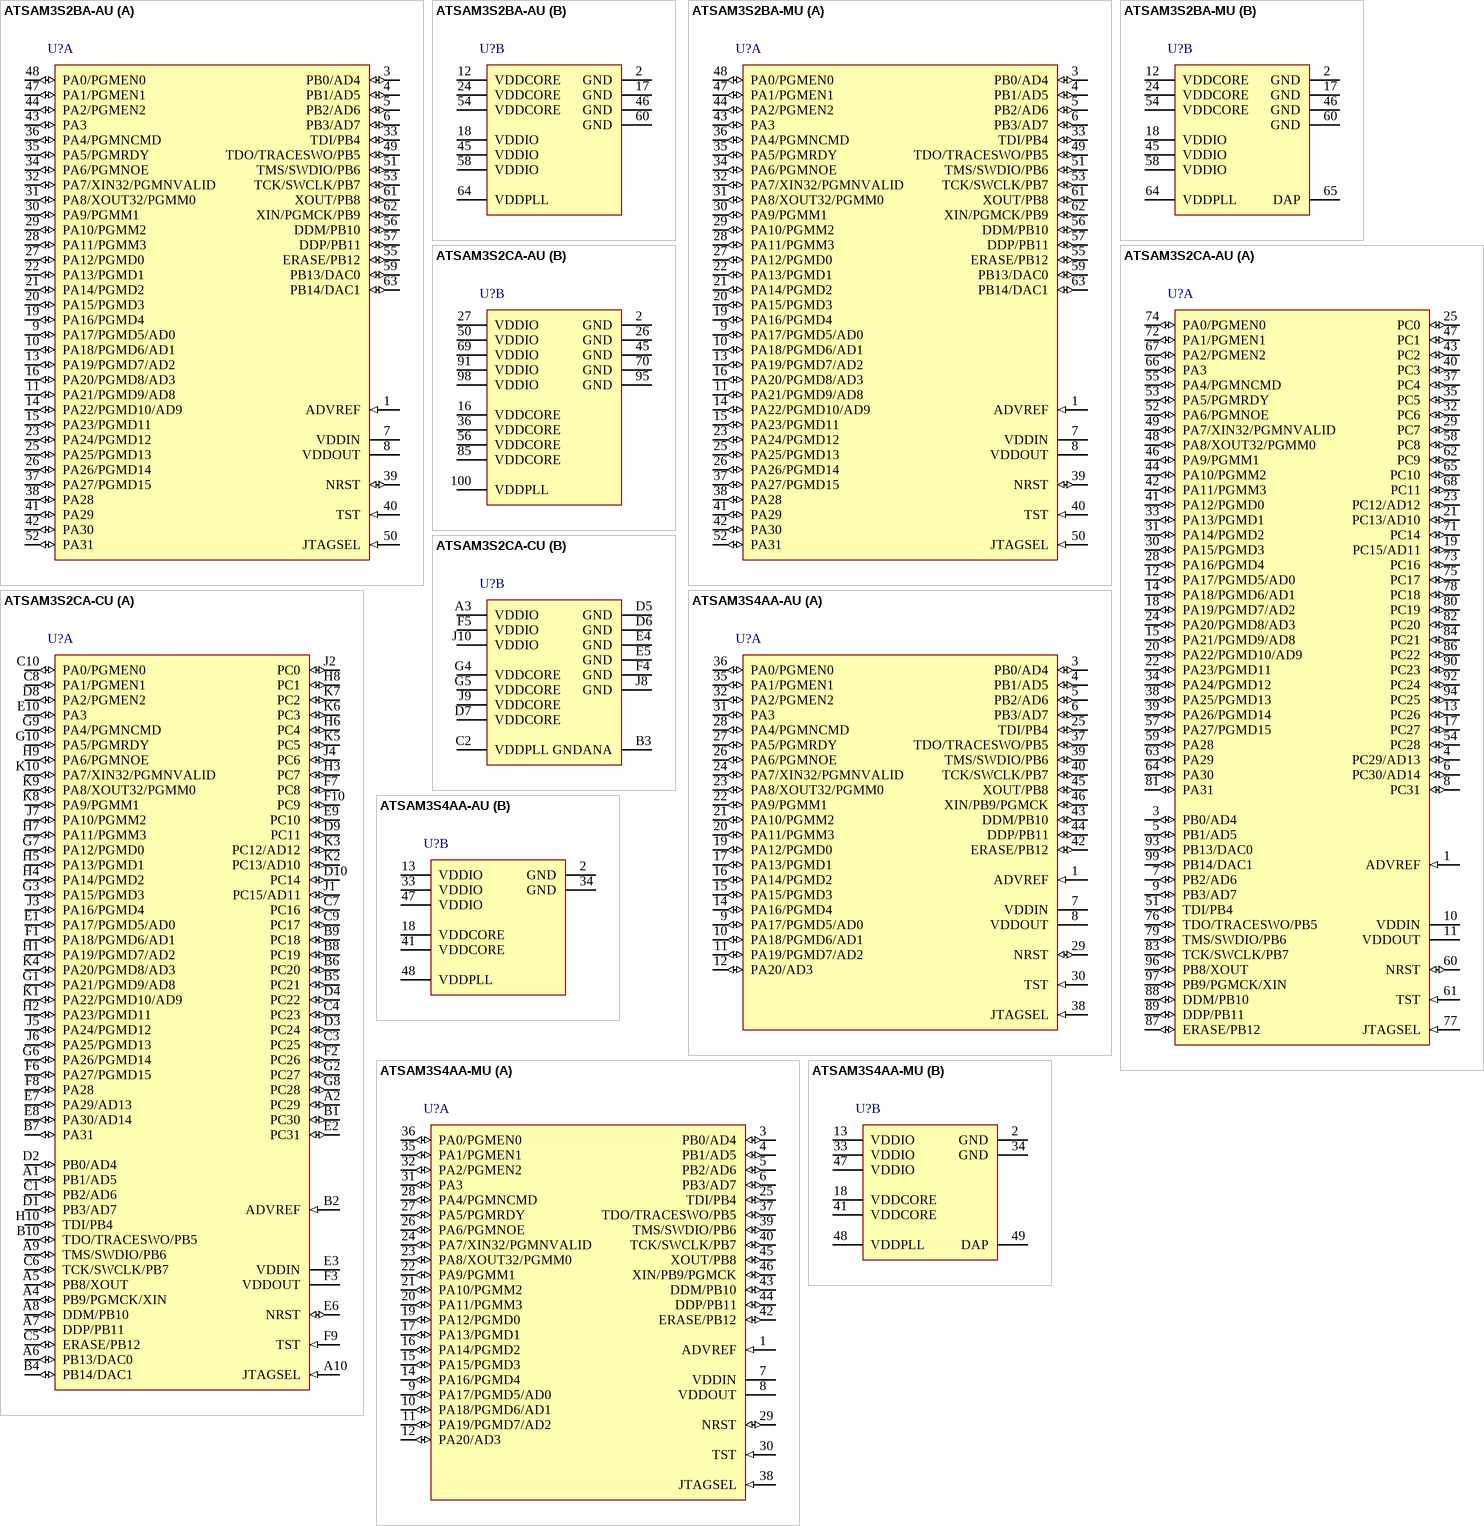
[diagram p56: symbols ATSAM3S2BA-AU to ATSAM3S4AA-MU]

## ATSAM3S2BA-AU
designator U?
AT91 ARM Cortex-M3 32-bit Microcontroller, 128KB Flash, 32KB SRAM, 10-ch. ADC, 47 User I/Os, 64-Pin LQFP, Industrial Grade (-40°C to 85°C), Pb-Free; DatasheetVersion: revC, Feb-2011; PackageVersion: Apr-2006; PackageReference: LQFP64; PackageDescription: 64-Pin Thin Quad Flat Pack 0.5 mm Pitch; Code_JEDEC: MS-026-BCD; ComponentLink1Description: Manufacturer URL; ComponentLink1URL: http://www.atmel.com/; ComponentLink2Description: SAM3S Series Datasheet; ComponentLink2URL: http://www.atmel.com/dyn/resources/prod_documents/doc6500.pdf; ComponentLink3Description: SAM3S Series Summary; ComponentLink3URL: http://www.atmel.com/dyn/resources/prod_documents/6500s.pdf
footprint LQFP64_N (Thin QFP, 64-Leads, Body 10x10mm, Pitch 0.5mm, IPC Medium Density)
footprint LQFP64_L (Thin QFP, 64-Leads, Body 10x10mm, Pitch 0.5mm, IPC High Density)
footprint LQFP64_M (Thin QFP, 64-Leads, Body 10x10mm, Pitch 0.5mm, IPC Low Density)
part A pins: 1 ADVREF (in), 3 PB0/AD4 (io), 4 PB1/AD5 (io), 5 PB2/AD6 (io), 6 PB3/AD7 (io), 7 VDDIN (power), 8 VDDOUT (power), 9 PA17/PGMD5/AD0 (io), 10 PA18/PGMD6/AD1 (io), 11 PA21/PGMD9/AD8 (io), 13 PA19/PGMD7/AD2 (io), 14 PA22/PGMD10/AD9 (io), 15 PA23/PGMD11 (io), 16 PA20/PGMD8/AD3 (io), 19 PA16/PGMD4 (io), 20 PA15/PGMD3 (io), 21 PA14/PGMD2 (io), 22 PA13/PGMD1 (io), 23 PA24/PGMD12 (io), 25 PA25/PGMD13 (io), 26 PA26/PGMD14 (io), 27 PA12/PGMD0 (io), 28 PA11/PGMM3 (io), 29 PA10/PGMM2 (io), 30 PA9/PGMM1 (io), 31 PA8/XOUT32/PGMM0 (io), 32 PA7/XIN32/PGMNVALID (io), 33 TDI/PB4 (io), 34 PA6/PGMNOE (io), 35 PA5/PGMRDY (io), 36 PA4/PGMNCMD (io), 37 PA27/PGMD15 (io), 38 PA28 (io), 39 NRST (io), 40 TST (in), 41 PA29 (io), 42 PA30 (io), 43 PA3 (io), 44 PA2/PGMEN2 (io), 47 PA1/PGMEN1 (io), 48 PA0/PGMEN0 (io), 49 TDO/TRACESWO/PB5 (io), 50 JTAGSEL (in), 51 TMS/SWDIO/PB6 (io), 52 PA31 (io), 53 TCK/SWCLK/PB7 (io), 55 ERASE/PB12 (io), 56 DDM/PB10 (io), 57 DDP/PB11 (io), 59 PB13/DAC0 (io), 61 XOUT/PB8 (io), 62 XIN/PGMCK/PB9 (io), 63 PB14/DAC1 (io)
part B pins: 2 GND (power), 12 VDDCORE (power), 17 GND (power), 18 VDDIO (power), 24 VDDCORE (power), 45 VDDIO (power), 46 GND (power), 54 VDDCORE (power), 58 VDDIO (power), 60 GND (power), 64 VDDPLL (power)

## ATSAM3S2BA-MU
designator U?
AT91 ARM Cortex-M3 32-bit Microcontroller, 128KB Flash, 32KB SRAM, 10-ch. ADC, 47 User I/Os, 64-Pin QFN, Industrial Grade (-40°C to 85°C), Pb-Free; DatasheetVersion: revC, Feb-2011; PackageVersion: Apr-2006; PackageReference: QFN64; PackageDescription: 64-Pin Quad Flat No-Lead 0.5 mm Pitch; Code_JEDEC: MO-220; ComponentLink1Description: Manufacturer URL; ComponentLink1URL: http://www.atmel.com/; ComponentLink2Description: SAM3S Series Datasheet; ComponentLink2URL: http://www.atmel.com/dyn/resources/prod_documents/doc6500.pdf; ComponentLink3Description: SAM3S Series Summary; ComponentLink3URL: http://www.atmel.com/dyn/resources/prod_documents/6500s.pdf
footprint QFN64_N (QFN, 64-Leads, Body 9x9mm, Pitch 0.5mm, Thermal Pad 7.3x7.3mm, IPC Medium Density)
footprint QFN64_L (QFN, 64-Leads, Body 9x9mm, Pitch 0.5mm, Thermal Pad 7.3x7.3mm, IPC High Density)
footprint QFN64_M (QFN, 64-Leads, Body 9x9mm, Pitch 0.5mm, Thermal Pad 7.3x7.3mm, IPC Low Density)
part A pins: 1 ADVREF (in), 3 PB0/AD4 (io), 4 PB1/AD5 (io), 5 PB2/AD6 (io), 6 PB3/AD7 (io), 7 VDDIN (power), 8 VDDOUT (power), 9 PA17/PGMD5/AD0 (io), 10 PA18/PGMD6/AD1 (io), 11 PA21/PGMD9/AD8 (io), 13 PA19/PGMD7/AD2 (io), 14 PA22/PGMD10/AD9 (io), 15 PA23/PGMD11 (io), 16 PA20/PGMD8/AD3 (io), 19 PA16/PGMD4 (io), 20 PA15/PGMD3 (io), 21 PA14/PGMD2 (io), 22 PA13/PGMD1 (io), 23 PA24/PGMD12 (io), 25 PA25/PGMD13 (io), 26 PA26/PGMD14 (io), 27 PA12/PGMD0 (io), 28 PA11/PGMM3 (io), 29 PA10/PGMM2 (io), 30 PA9/PGMM1 (io), 31 PA8/XOUT32/PGMM0 (io), 32 PA7/XIN32/PGMNVALID (io), 33 TDI/PB4 (io), 34 PA6/PGMNOE (io), 35 PA5/PGMRDY (io), 36 PA4/PGMNCMD (io), 37 PA27/PGMD15 (io), 38 PA28 (io), 39 NRST (io), 40 TST (in), 41 PA29 (io), 42 PA30 (io), 43 PA3 (io), 44 PA2/PGMEN2 (io), 47 PA1/PGMEN1 (io), 48 PA0/PGMEN0 (io), 49 TDO/TRACESWO/PB5 (io), 50 JTAGSEL (in), 51 TMS/SWDIO/PB6 (io), 52 PA31 (io), 53 TCK/SWCLK/PB7 (io), 55 ERASE/PB12 (io), 56 DDM/PB10 (io), 57 DDP/PB11 (io), 59 PB13/DAC0 (io), 61 XOUT/PB8 (io), 62 XIN/PGMCK/PB9 (io), 63 PB14/DAC1 (io)
part B pins: 2 GND (power), 12 VDDCORE (power), 17 GND (power), 18 VDDIO (power), 24 VDDCORE (power), 45 VDDIO (power), 46 GND (power), 54 VDDCORE (power), 58 VDDIO (power), 60 GND (power), 64 VDDPLL (power), 65 DAP (power)

## ATSAM3S2CA-AU
designator U?
AT91 ARM Cortex-M3 32-bit Microcontroller, 128KB Flash, 32KB SRAM, 16-ch. ADC, 79 User I/Os, 100-Pin LQFP, Industrial Grade (-40°C to 85°C), Pb-Free; DatasheetVersion: revC, Feb-2011; PackageVersion: Apr-2006; PackageReference: LQFP100; PackageDescription: 100-Pin Thin Quad Flat Pack 0.5 mm Pitch; Code_JEDEC: MS-026-BED; ComponentLink1Description: Manufacturer URL; ComponentLink1URL: http://www.atmel.com/; ComponentLink2Description: SAM3S Series Datasheet; ComponentLink2URL: http://www.atmel.com/dyn/resources/prod_documents/doc6500.pdf; ComponentLink3Description: SAM3S Series Summary; ComponentLink3URL: http://www.atmel.com/dyn/resources/prod_documents/6500s.pdf
footprint LQFP100_N (Thin QFP, 100-Leads, Body 14x14mm, Pitch 0.5mm, IPC Medium Density)
footprint LQFP100_L (Thin QFP, 100-Leads, Body 14x14mm, Pitch 0.5mm, IPC High Density)
footprint LQFP100_M (Thin QFP, 100-Leads, Body 14x14mm, Pitch 0.5mm, IPC Low Density)
part A pins: 1 ADVREF (in), 3 PB0/AD4 (io), 4 PC29/AD13 (io), 5 PB1/AD5 (io), 6 PC30/AD14 (io), 7 PB2/AD6 (io), 8 PC31 (io), 9 PB3/AD7 (io), 10 VDDIN (power), 11 VDDOUT (power), 12 PA17/PGMD5/AD0 (io), 13 PC26 (io), 14 PA18/PGMD6/AD1 (io), 15 PA21/PGMD9/AD8 (io), 17 PC27 (io), 18 PA19/PGMD7/AD2 (io), 19 PC15/AD11 (io), 20 PA22/PGMD10/AD9 (io), 21 PC13/AD10 (io), 22 PA23/PGMD11 (io), 23 PC12/AD12 (io), 24 PA20/PGMD8/AD3 (io), 25 PC0 (io), 28 PA16/PGMD4 (io), 29 PC7 (io), 30 PA15/PGMD3 (io), 31 PA14/PGMD2 (io), 32 PC6 (io), 33 PA13/PGMD1 (io), 34 PA24/PGMD12 (io), 35 PC5 (io), 37 PC4 (io), 38 PA25/PGMD13 (io), 39 PA26/PGMD14 (io), 40 PC3 (io), 41 PA12/PGMD0 (io), 42 PA11/PGMM3 (io), 43 PC2 (io), 44 PA10/PGMM2 (io), 46 PA9/PGMM1 (io), 47 PC1 (io), 48 PA8/XOUT32/PGMM0 (io), 49 PA7/XIN32/PGMNVALID (io), 51 TDI/PB4 (io), 52 PA6/PGMNOE (io), 53 PA5/PGMRDY (io), 54 PC28 (io), 55 PA4/PGMNCMD (io), 57 PA27/PGMD15 (io), 58 PC8 (io), 59 PA28 (io), 60 NRST (io), 61 TST (in), 62 PC9 (io), 63 PA29 (io), 64 PA30 (io), 65 PC10 (io), 66 PA3 (io), 67 PA2/PGMEN2 (io), 68 PC11 (io), 71 PC14 (io), 72 PA1/PGMEN1 (io), 73 PC16 (io), 74 PA0/PGMEN0 (io), 75 PC17 (io), 76 TDO/TRACESWO/PB5 (io), 77 JTAGSEL (in), 78 PC18 (io), 79 TMS/SWDIO/PB6 (io), 80 PC19 (io), 81 PA31 (io), 82 PC20 (io), 83 TCK/SWCLK/PB7 (io), 84 PC21 (io), 86 PC22 (io), 87 ERASE/PB12 (io), 88 DDM/PB10 (io), 89 DDP/PB11 (io), 90 PC23 (io), 92 PC24 (io), 93 PB13/DAC0 (io), 94 PC25 (io), 96 PB8/XOUT (io), 97 PB9/PGMCK/XIN (io), 99 PB14/DAC1 (io)
part B pins: 2 GND (power), 16 VDDCORE (power), 26 GND (power), 27 VDDIO (power), 36 VDDCORE (power), 45 GND (power), 50 VDDIO (power), 56 VDDCORE (power), 69 VDDIO (power), 70 GND (power), 85 VDDCORE (power), 91 VDDIO (power), 95 GND (power), 98 VDDIO (power), 100 VDDPLL (power)

## ATSAM3S2CA-CU
designator U?
AT91 ARM Cortex-M3 32-bit Microcontroller, 128KB Flash, 32KB SRAM, 16-ch. ADC, 79 User I/Os, 100-Pin BGA, Industrial Grade (-40°C to 85°C), Pb-Free; DatasheetVersion: revC, Feb-2011; PackageVersion: 2004; PackageReference: TFBGA100; PackageDescription: 100-Ball Thin Fine Ball Grid Array, 9 x 9 x1.1 mm Body, 0.80 mm Pitch; ComponentLink1Description: Manufacturer URL; ComponentLink1URL: http://www.atmel.com/; ComponentLink2Description: SAM3S Series Datasheet; ComponentLink2URL: http://www.atmel.com/dyn/resources/prod_documents/doc6500.pdf; ComponentLink3Description: SAM3S Series Summary; ComponentLink3URL: http://www.atmel.com/dyn/resources/prod_documents/6500s.pdf
footprint TFBGA100 (BGA, 100-Leads, Body 9x9mm, Pitch 0.8mm)
part A pins: A1 PB1/AD5 (io), A2 PC29 (io), A4 PB9/PGMCK/XIN (io), A5 PB8/XOUT (io), A6 PB13/DAC0 (io), A7 DDP/PB11 (io), A8 DDM/PB10 (io), A9 TMS/SWDIO/PB6 (io), A10 JTAGSEL (in), B1 PC30 (io), B2 ADVREF (in), B4 PB14/DAC1 (io), B5 PC21 (io), B6 PC20 (io), B7 PA31 (io), B8 PC19 (io), B9 PC18 (io), B10 TDO/TRACESWO/PB5 (io), C1 PB2/AD6 (io), C3 PC25 (io), C4 PC23 (io), C5 ERASE/PB12 (io), C6 TCK/SWCLK/PB7 (io), C7 PC16 (io), C8 PA1/PGMEN1 (io), C9 PC17 (io), C10 PA0/PGMEN0 (io), D1 PB3/AD7 (io), D2 PB0/AD4 (io), D3 PC24 (io), D4 PC22 (io), D8 PA2/PGMEN2 (io), D9 PC11 (io), D10 PC14 (io), E1 PA17/PGMD5/AD0 (io), E2 PC31 (io), E3 VDDIN (power), E6 NRST (io), E7 PA29/AD13 (io), E8 PA30/AD14 (io), E9 PC10 (io), E10 PA3 (io), F1 PA18/PGMD6/AD1 (io), F2 PC26 (io), F3 VDDOUT (power), F6 PA27/PGMD15 (io), F7 PC8 (io), F8 PA28 (io), F9 TST (in), F10 PC9 (io), G1 PA21/PGMD9/AD8 (io), G2 PC27 (io), G3 PA15/PGMD3 (io), G6 PA26/PGMD14 (io), G7 PA12/PGMD0 (io), G8 PC28 (io), G9 PA4/PGMNCMD (io), G10 PA5/PGMRDY (io), H1 PA19/PGMD7/AD2 (io), H2 PA23/PGMD11 (io), H3 PC7 (io), H4 PA14/PGMD2 (io), H5 PA13/PGMD1 (io), H6 PC4 (io), H7 PA11/PGMM3 (io), H8 PC1 (io), H9 PA6/PGMNOE (io), H10 TDI/PB4 (io), J1 PC15/AD11 (io), J2 PC0 (io), J3 PA16/PGMD4 (io), J4 PC6 (io), J5 PA24/PGMD12 (io), J6 PA25/PGMD13 (io), J7 PA10/PGMM2 (io), K1 PA22/PGMD10/AD9 (io), K2 PC13/AD10 (io), K3 PC12/AD12 (io), K4 PA20/PGMD8/AD3 (io), K5 PC5 (io), K6 PC3 (io), K7 PC2 (io), K8 PA9/PGMM1 (io), K9 PA8/XOUT32/PGMM0 (io), K10 PA7/XIN32/PGMNVALID (io)
part B pins: A3 VDDIO (power), B3 GNDANA (power), C2 VDDPLL (power), D5 GND (power), D6 GND (power), D7 VDDCORE (power), E4 GND (power), E5 GND (power), F4 GND (power), F5 VDDIO (power), G4 VDDCORE (power), G5 VDDCORE (power), J8 GND (power), J9 VDDCORE (power), J10 VDDIO (power)

## ATSAM3S4AA-AU
designator U?
AT91 ARM Cortex-M3 32-bit Microcontroller, 256KB Flash, 48KB SRAM, 8-ch. ADC, 34 User I/Os, 48-Pin LQFP, Industrial Grade (-40°C to 85°C), Pb-Free; DatasheetVersion: revC, Feb-2011; PackageVersion: revC, Oct-2001; PackageReference: 48AA; PackageDescription: 48-Pin Plastic Low Profile Quad Flat Pack (LQFP), 7 x 7 x 1.4 mm Body, 0.5 mm Pitch; Code_JEDEC: MS-026-BBC; ComponentLink1Description: Manufacturer URL; ComponentLink1URL: http://www.atmel.com/; ComponentLink2Description: SAM3S Series Datasheet; ComponentLink2URL: http://www.atmel.com/dyn/resources/prod_documents/doc6500.pdf; ComponentLink3Description: SAM3S Series Summary; ComponentLink3URL: http://www.atmel.com/dyn/resources/prod_documents/6500s.pdf
footprint 48AA_N (Thin QFP, 48-Leads, Body 7x7mm, Pitch 0.5mm, IPC Medium Density)
footprint 48AA_L (Thin QFP, 48-Leads, Body 7x7mm, Pitch 0.5mm, IPC High Density)
footprint 48AA_M (Thin QFP, 48-Leads, Body 7x7mm, Pitch 0.5mm, IPC Low Density)
part A pins: 1 ADVREF (in), 3 PB0/AD4 (io), 4 PB1/AD5 (io), 5 PB2/AD6 (io), 6 PB3/AD7 (io), 7 VDDIN (power), 8 VDDOUT (power), 9 PA17/PGMD5/AD0 (io), 10 PA18/PGMD6/AD1 (io), 11 PA19/PGMD7/AD2 (io), 12 PA20/AD3 (io), 14 PA16/PGMD4 (io), 15 PA15/PGMD3 (io), 16 PA14/PGMD2 (io), 17 PA13/PGMD1 (io), 19 PA12/PGMD0 (io), 20 PA11/PGMM3 (io), 21 PA10/PGMM2 (io), 22 PA9/PGMM1 (io), 23 PA8/XOUT32/PGMM0 (io), 24 PA7/XIN32/PGMNVALID (io), 25 TDI/PB4 (io), 26 PA6/PGMNOE (io), 27 PA5/PGMRDY (io), 28 PA4/PGMNCMD (io), 29 NRST (io), 30 TST (in), 31 PA3 (io), 32 PA2/PGMEN2 (io), 35 PA1/PGMEN1 (io), 36 PA0/PGMEN0 (io), 37 TDO/TRACESWO/PB5 (io), 38 JTAGSEL (in), 39 TMS/SWDIO/PB6 (io), 40 TCK/SWCLK/PB7 (io), 42 ERASE/PB12 (io), 43 DDM/PB10 (io), 44 DDP/PB11 (io), 45 XOUT/PB8 (io), 46 XIN/PB9/PGMCK (io)
part B pins: 2 GND (power), 13 VDDIO (power), 18 VDDCORE (power), 33 VDDIO (power), 34 GND (power), 41 VDDCORE (power), 47 VDDIO (power), 48 VDDPLL (power)

## ATSAM3S4AA-MU
designator U?
AT91 ARM Cortex-M3 32-bit Microcontroller, 256KB Flash, 48KB SRAM, 8-ch. ADC, 34 User I/Os, 48-Pin QFN, Industrial Grade (-40°C to 85°C), Pb-Free; DatasheetVersion: revC, Feb-2011; PackageVersion: Apr-2006; PackageReference: QFN48; PackageDescription: 48-Pin Quad Flat No-Lead 0.5 mm Pitch; ComponentLink1Description: Manufacturer URL; ComponentLink1URL: http://www.atmel.com/; ComponentLink2Description: SAM3S Series Datasheet; ComponentLink2URL: http://www.atmel.com/dyn/resources/prod_documents/doc6500.pdf; ComponentLink3Description: SAM3S Series Summary; ComponentLink3URL: http://www.atmel.com/dyn/resources/prod_documents/6500s.pdf
footprint QFN48_N (QFN, 48-Leads, Body 7x7mm, Pitch 0.5mm, Thermal Pad 5.8x5.8mm, IPC Medium Density)
footprint QFN48_L (QFN, 48-Leads, Body 7x7mm, Pitch 0.5mm, Thermal Pad 5.8x5.8mm, IPC High Density)
footprint QFN48_M (QFN, 48-Leads, Body 7x7mm, Pitch 0.5mm, Thermal Pad 5.8x5.8mm, IPC Low Density)
part A pins: 1 ADVREF (in), 3 PB0/AD4 (io), 4 PB1/AD5 (io), 5 PB2/AD6 (io), 6 PB3/AD7 (io), 7 VDDIN (power), 8 VDDOUT (power), 9 PA17/PGMD5/AD0 (io), 10 PA18/PGMD6/AD1 (io), 11 PA19/PGMD7/AD2 (io), 12 PA20/AD3 (io), 14 PA16/PGMD4 (io), 15 PA15/PGMD3 (io), 16 PA14/PGMD2 (io), 17 PA13/PGMD1 (io), 19 PA12/PGMD0 (io), 20 PA11/PGMM3 (io), 21 PA10/PGMM2 (io), 22 PA9/PGMM1 (io), 23 PA8/XOUT32/PGMM0 (io), 24 PA7/XIN32/PGMNVALID (io), 25 TDI/PB4 (io), 26 PA6/PGMNOE (io), 27 PA5/PGMRDY (io), 28 PA4/PGMNCMD (io), 29 NRST (io), 30 TST (in), 31 PA3 (io), 32 PA2/PGMEN2 (io), 35 PA1/PGMEN1 (io), 36 PA0/PGMEN0 (io), 37 TDO/TRACESWO/PB5 (io), 38 JTAGSEL (in), 39 TMS/SWDIO/PB6 (io), 40 TCK/SWCLK/PB7 (io), 42 ERASE/PB12 (io), 43 DDM/PB10 (io), 44 DDP/PB11 (io), 45 XOUT/PB8 (io), 46 XIN/PB9/PGMCK (io)
part B pins: 2 GND (power), 13 VDDIO (power), 18 VDDCORE (power), 33 VDDIO (power), 34 GND (power), 41 VDDCORE (power), 47 VDDIO (power), 48 VDDPLL (power), 49 DAP (power)

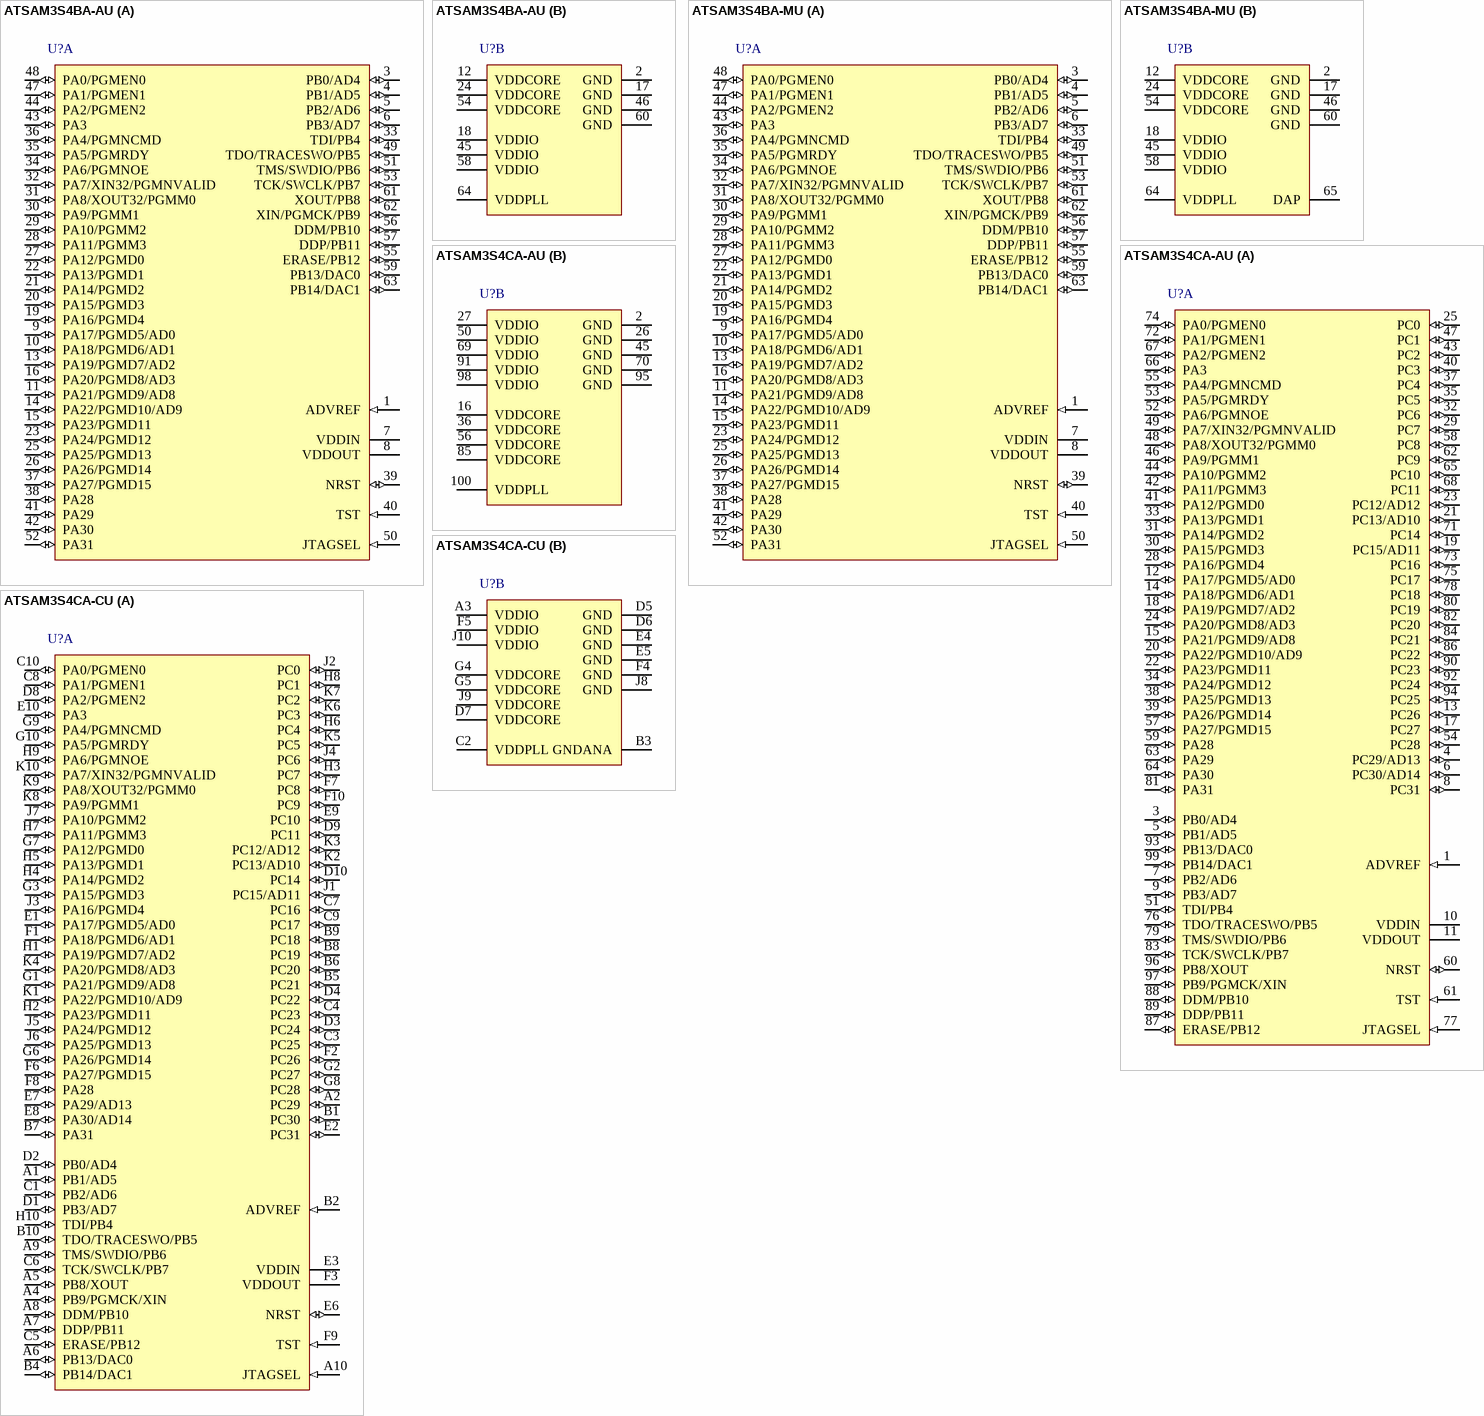
[diagram p57: symbols ATSAM3S4BA-AU to ATSAM3S4CA-CU]

## ATSAM3S4BA-AU
designator U?
AT91 ARM Cortex-M3 32-bit Microcontroller, 256KB Flash, 48KB SRAM, 10-ch. ADC, 47 User I/Os, 64-Pin LQFP, Industrial Grade (-40°C to 85°C), Pb-Free; DatasheetVersion: revC, Feb-2011; PackageVersion: Apr-2006; PackageReference: LQFP64; PackageDescription: 64-Pin Thin Quad Flat Pack 0.5 mm Pitch; Code_JEDEC: MS-026-BCD; ComponentLink1Description: Manufacturer URL; ComponentLink1URL: http://www.atmel.com/; ComponentLink2Description: SAM3S Series Datasheet; ComponentLink2URL: http://www.atmel.com/dyn/resources/prod_documents/doc6500.pdf; ComponentLink3Description: SAM3S Series Summary; ComponentLink3URL: http://www.atmel.com/dyn/resources/prod_documents/6500s.pdf
footprint LQFP64_N (Thin QFP, 64-Leads, Body 10x10mm, Pitch 0.5mm, IPC Medium Density)
footprint LQFP64_L (Thin QFP, 64-Leads, Body 10x10mm, Pitch 0.5mm, IPC High Density)
footprint LQFP64_M (Thin QFP, 64-Leads, Body 10x10mm, Pitch 0.5mm, IPC Low Density)
part A pins: 1 ADVREF (in), 3 PB0/AD4 (io), 4 PB1/AD5 (io), 5 PB2/AD6 (io), 6 PB3/AD7 (io), 7 VDDIN (power), 8 VDDOUT (power), 9 PA17/PGMD5/AD0 (io), 10 PA18/PGMD6/AD1 (io), 11 PA21/PGMD9/AD8 (io), 13 PA19/PGMD7/AD2 (io), 14 PA22/PGMD10/AD9 (io), 15 PA23/PGMD11 (io), 16 PA20/PGMD8/AD3 (io), 19 PA16/PGMD4 (io), 20 PA15/PGMD3 (io), 21 PA14/PGMD2 (io), 22 PA13/PGMD1 (io), 23 PA24/PGMD12 (io), 25 PA25/PGMD13 (io), 26 PA26/PGMD14 (io), 27 PA12/PGMD0 (io), 28 PA11/PGMM3 (io), 29 PA10/PGMM2 (io), 30 PA9/PGMM1 (io), 31 PA8/XOUT32/PGMM0 (io), 32 PA7/XIN32/PGMNVALID (io), 33 TDI/PB4 (io), 34 PA6/PGMNOE (io), 35 PA5/PGMRDY (io), 36 PA4/PGMNCMD (io), 37 PA27/PGMD15 (io), 38 PA28 (io), 39 NRST (io), 40 TST (in), 41 PA29 (io), 42 PA30 (io), 43 PA3 (io), 44 PA2/PGMEN2 (io), 47 PA1/PGMEN1 (io), 48 PA0/PGMEN0 (io), 49 TDO/TRACESWO/PB5 (io), 50 JTAGSEL (in), 51 TMS/SWDIO/PB6 (io), 52 PA31 (io), 53 TCK/SWCLK/PB7 (io), 55 ERASE/PB12 (io), 56 DDM/PB10 (io), 57 DDP/PB11 (io), 59 PB13/DAC0 (io), 61 XOUT/PB8 (io), 62 XIN/PGMCK/PB9 (io), 63 PB14/DAC1 (io)
part B pins: 2 GND (power), 12 VDDCORE (power), 17 GND (power), 18 VDDIO (power), 24 VDDCORE (power), 45 VDDIO (power), 46 GND (power), 54 VDDCORE (power), 58 VDDIO (power), 60 GND (power), 64 VDDPLL (power)

## ATSAM3S4BA-MU
designator U?
AT91 ARM Cortex-M3 32-bit Microcontroller, 256KB Flash, 48KB SRAM, 10-ch. ADC, 47 User I/Os, 64-Pin QFN, Industrial Grade (-40°C to 85°C), Pb-Free; DatasheetVersion: revC, Feb-2011; PackageVersion: Apr-2006; PackageReference: QFN64; PackageDescription: 64-Pin Quad Flat No-Lead 0.5 mm Pitch; Code_JEDEC: MO-220; ComponentLink1Description: Manufacturer URL; ComponentLink1URL: http://www.atmel.com/; ComponentLink2Description: SAM3S Series Datasheet; ComponentLink2URL: http://www.atmel.com/dyn/resources/prod_documents/doc6500.pdf; ComponentLink3Description: SAM3S Series Summary; ComponentLink3URL: http://www.atmel.com/dyn/resources/prod_documents/6500s.pdf
footprint QFN64_N (QFN, 64-Leads, Body 9x9mm, Pitch 0.5mm, Thermal Pad 7.3x7.3mm, IPC Medium Density)
footprint QFN64_L (QFN, 64-Leads, Body 9x9mm, Pitch 0.5mm, Thermal Pad 7.3x7.3mm, IPC High Density)
footprint QFN64_M (QFN, 64-Leads, Body 9x9mm, Pitch 0.5mm, Thermal Pad 7.3x7.3mm, IPC Low Density)
part A pins: 1 ADVREF (in), 3 PB0/AD4 (io), 4 PB1/AD5 (io), 5 PB2/AD6 (io), 6 PB3/AD7 (io), 7 VDDIN (power), 8 VDDOUT (power), 9 PA17/PGMD5/AD0 (io), 10 PA18/PGMD6/AD1 (io), 11 PA21/PGMD9/AD8 (io), 13 PA19/PGMD7/AD2 (io), 14 PA22/PGMD10/AD9 (io), 15 PA23/PGMD11 (io), 16 PA20/PGMD8/AD3 (io), 19 PA16/PGMD4 (io), 20 PA15/PGMD3 (io), 21 PA14/PGMD2 (io), 22 PA13/PGMD1 (io), 23 PA24/PGMD12 (io), 25 PA25/PGMD13 (io), 26 PA26/PGMD14 (io), 27 PA12/PGMD0 (io), 28 PA11/PGMM3 (io), 29 PA10/PGMM2 (io), 30 PA9/PGMM1 (io), 31 PA8/XOUT32/PGMM0 (io), 32 PA7/XIN32/PGMNVALID (io), 33 TDI/PB4 (io), 34 PA6/PGMNOE (io), 35 PA5/PGMRDY (io), 36 PA4/PGMNCMD (io), 37 PA27/PGMD15 (io), 38 PA28 (io), 39 NRST (io), 40 TST (in), 41 PA29 (io), 42 PA30 (io), 43 PA3 (io), 44 PA2/PGMEN2 (io), 47 PA1/PGMEN1 (io), 48 PA0/PGMEN0 (io), 49 TDO/TRACESWO/PB5 (io), 50 JTAGSEL (in), 51 TMS/SWDIO/PB6 (io), 52 PA31 (io), 53 TCK/SWCLK/PB7 (io), 55 ERASE/PB12 (io), 56 DDM/PB10 (io), 57 DDP/PB11 (io), 59 PB13/DAC0 (io), 61 XOUT/PB8 (io), 62 XIN/PGMCK/PB9 (io), 63 PB14/DAC1 (io)
part B pins: 2 GND (power), 12 VDDCORE (power), 17 GND (power), 18 VDDIO (power), 24 VDDCORE (power), 45 VDDIO (power), 46 GND (power), 54 VDDCORE (power), 58 VDDIO (power), 60 GND (power), 64 VDDPLL (power), 65 DAP (power)

## ATSAM3S4CA-AU
designator U?
AT91 ARM Cortex-M3 32-bit Microcontroller, 256KB Flash, 48KB SRAM, 16-ch. ADC, 79 User I/Os, 100-Pin LQFP, Industrial Grade (-40°C to 85°C), Pb-Free; DatasheetVersion: revC, Feb-2011; PackageVersion: Apr-2006; PackageReference: LQFP100; PackageDescription: 100-Pin Thin Quad Flat Pack 0.5 mm Pitch; Code_JEDEC: MS-026-BED; ComponentLink1Description: Manufacturer URL; ComponentLink1URL: http://www.atmel.com/; ComponentLink2Description: SAM3S Series Datasheet; ComponentLink2URL: http://www.atmel.com/dyn/resources/prod_documents/doc6500.pdf; ComponentLink3Description: SAM3S Series Summary; ComponentLink3URL: http://www.atmel.com/dyn/resources/prod_documents/6500s.pdf
footprint LQFP100_N (Thin QFP, 100-Leads, Body 14x14mm, Pitch 0.5mm, IPC Medium Density)
footprint LQFP100_L (Thin QFP, 100-Leads, Body 14x14mm, Pitch 0.5mm, IPC High Density)
footprint LQFP100_M (Thin QFP, 100-Leads, Body 14x14mm, Pitch 0.5mm, IPC Low Density)
part A pins: 1 ADVREF (in), 3 PB0/AD4 (io), 4 PC29/AD13 (io), 5 PB1/AD5 (io), 6 PC30/AD14 (io), 7 PB2/AD6 (io), 8 PC31 (io), 9 PB3/AD7 (io), 10 VDDIN (power), 11 VDDOUT (power), 12 PA17/PGMD5/AD0 (io), 13 PC26 (io), 14 PA18/PGMD6/AD1 (io), 15 PA21/PGMD9/AD8 (io), 17 PC27 (io), 18 PA19/PGMD7/AD2 (io), 19 PC15/AD11 (io), 20 PA22/PGMD10/AD9 (io), 21 PC13/AD10 (io), 22 PA23/PGMD11 (io), 23 PC12/AD12 (io), 24 PA20/PGMD8/AD3 (io), 25 PC0 (io), 28 PA16/PGMD4 (io), 29 PC7 (io), 30 PA15/PGMD3 (io), 31 PA14/PGMD2 (io), 32 PC6 (io), 33 PA13/PGMD1 (io), 34 PA24/PGMD12 (io), 35 PC5 (io), 37 PC4 (io), 38 PA25/PGMD13 (io), 39 PA26/PGMD14 (io), 40 PC3 (io), 41 PA12/PGMD0 (io), 42 PA11/PGMM3 (io), 43 PC2 (io), 44 PA10/PGMM2 (io), 46 PA9/PGMM1 (io), 47 PC1 (io), 48 PA8/XOUT32/PGMM0 (io), 49 PA7/XIN32/PGMNVALID (io), 51 TDI/PB4 (io), 52 PA6/PGMNOE (io), 53 PA5/PGMRDY (io), 54 PC28 (io), 55 PA4/PGMNCMD (io), 57 PA27/PGMD15 (io), 58 PC8 (io), 59 PA28 (io), 60 NRST (io), 61 TST (in), 62 PC9 (io), 63 PA29 (io), 64 PA30 (io), 65 PC10 (io), 66 PA3 (io), 67 PA2/PGMEN2 (io), 68 PC11 (io), 71 PC14 (io), 72 PA1/PGMEN1 (io), 73 PC16 (io), 74 PA0/PGMEN0 (io), 75 PC17 (io), 76 TDO/TRACESWO/PB5 (io), 77 JTAGSEL (in), 78 PC18 (io), 79 TMS/SWDIO/PB6 (io), 80 PC19 (io), 81 PA31 (io), 82 PC20 (io), 83 TCK/SWCLK/PB7 (io), 84 PC21 (io), 86 PC22 (io), 87 ERASE/PB12 (io), 88 DDM/PB10 (io), 89 DDP/PB11 (io), 90 PC23 (io), 92 PC24 (io), 93 PB13/DAC0 (io), 94 PC25 (io), 96 PB8/XOUT (io), 97 PB9/PGMCK/XIN (io), 99 PB14/DAC1 (io)
part B pins: 2 GND (power), 16 VDDCORE (power), 26 GND (power), 27 VDDIO (power), 36 VDDCORE (power), 45 GND (power), 50 VDDIO (power), 56 VDDCORE (power), 69 VDDIO (power), 70 GND (power), 85 VDDCORE (power), 91 VDDIO (power), 95 GND (power), 98 VDDIO (power), 100 VDDPLL (power)

## ATSAM3S4CA-CU
designator U?
AT91 ARM Cortex-M3 32-bit Microcontroller, 256KB Flash, 48KB SRAM, 16-ch. ADC, 79 User I/Os, 100-Pin BGA, Industrial Grade (-40°C to 85°C), Pb-Free; DatasheetVersion: revC, Feb-2011; PackageVersion: 2004; PackageReference: TFBGA100; PackageDescription: 100-Ball Thin Fine Ball Grid Array, 9 x 9 x1.1 mm Body, 0.80 mm Pitch; ComponentLink1Description: Manufacturer URL; ComponentLink1URL: http://www.atmel.com/; ComponentLink2Description: SAM3S Series Datasheet; ComponentLink2URL: http://www.atmel.com/dyn/resources/prod_documents/doc6500.pdf; ComponentLink3Description: SAM3S Series Summary; ComponentLink3URL: http://www.atmel.com/dyn/resources/prod_documents/6500s.pdf
footprint TFBGA100 (BGA, 100-Leads, Body 9x9mm, Pitch 0.8mm)
part A pins: A1 PB1/AD5 (io), A2 PC29 (io), A4 PB9/PGMCK/XIN (io), A5 PB8/XOUT (io), A6 PB13/DAC0 (io), A7 DDP/PB11 (io), A8 DDM/PB10 (io), A9 TMS/SWDIO/PB6 (io), A10 JTAGSEL (in), B1 PC30 (io), B2 ADVREF (in), B4 PB14/DAC1 (io), B5 PC21 (io), B6 PC20 (io), B7 PA31 (io), B8 PC19 (io), B9 PC18 (io), B10 TDO/TRACESWO/PB5 (io), C1 PB2/AD6 (io), C3 PC25 (io), C4 PC23 (io), C5 ERASE/PB12 (io), C6 TCK/SWCLK/PB7 (io), C7 PC16 (io), C8 PA1/PGMEN1 (io), C9 PC17 (io), C10 PA0/PGMEN0 (io), D1 PB3/AD7 (io), D2 PB0/AD4 (io), D3 PC24 (io), D4 PC22 (io), D8 PA2/PGMEN2 (io), D9 PC11 (io), D10 PC14 (io), E1 PA17/PGMD5/AD0 (io), E2 PC31 (io), E3 VDDIN (power), E6 NRST (io), E7 PA29/AD13 (io), E8 PA30/AD14 (io), E9 PC10 (io), E10 PA3 (io), F1 PA18/PGMD6/AD1 (io), F2 PC26 (io), F3 VDDOUT (power), F6 PA27/PGMD15 (io), F7 PC8 (io), F8 PA28 (io), F9 TST (in), F10 PC9 (io), G1 PA21/PGMD9/AD8 (io), G2 PC27 (io), G3 PA15/PGMD3 (io), G6 PA26/PGMD14 (io), G7 PA12/PGMD0 (io), G8 PC28 (io), G9 PA4/PGMNCMD (io), G10 PA5/PGMRDY (io), H1 PA19/PGMD7/AD2 (io), H2 PA23/PGMD11 (io), H3 PC7 (io), H4 PA14/PGMD2 (io), H5 PA13/PGMD1 (io), H6 PC4 (io), H7 PA11/PGMM3 (io), H8 PC1 (io), H9 PA6/PGMNOE (io), H10 TDI/PB4 (io), J1 PC15/AD11 (io), J2 PC0 (io), J3 PA16/PGMD4 (io), J4 PC6 (io), J5 PA24/PGMD12 (io), J6 PA25/PGMD13 (io), J7 PA10/PGMM2 (io), K1 PA22/PGMD10/AD9 (io), K2 PC13/AD10 (io), K3 PC12/AD12 (io), K4 PA20/PGMD8/AD3 (io), K5 PC5 (io), K6 PC3 (io), K7 PC2 (io), K8 PA9/PGMM1 (io), K9 PA8/XOUT32/PGMM0 (io), K10 PA7/XIN32/PGMNVALID (io)
part B pins: A3 VDDIO (power), B3 GNDANA (power), C2 VDDPLL (power), D5 GND (power), D6 GND (power), D7 VDDCORE (power), E4 GND (power), E5 GND (power), F4 GND (power), F5 VDDIO (power), G4 VDDCORE (power), G5 VDDCORE (power), J8 GND (power), J9 VDDCORE (power), J10 VDDIO (power)

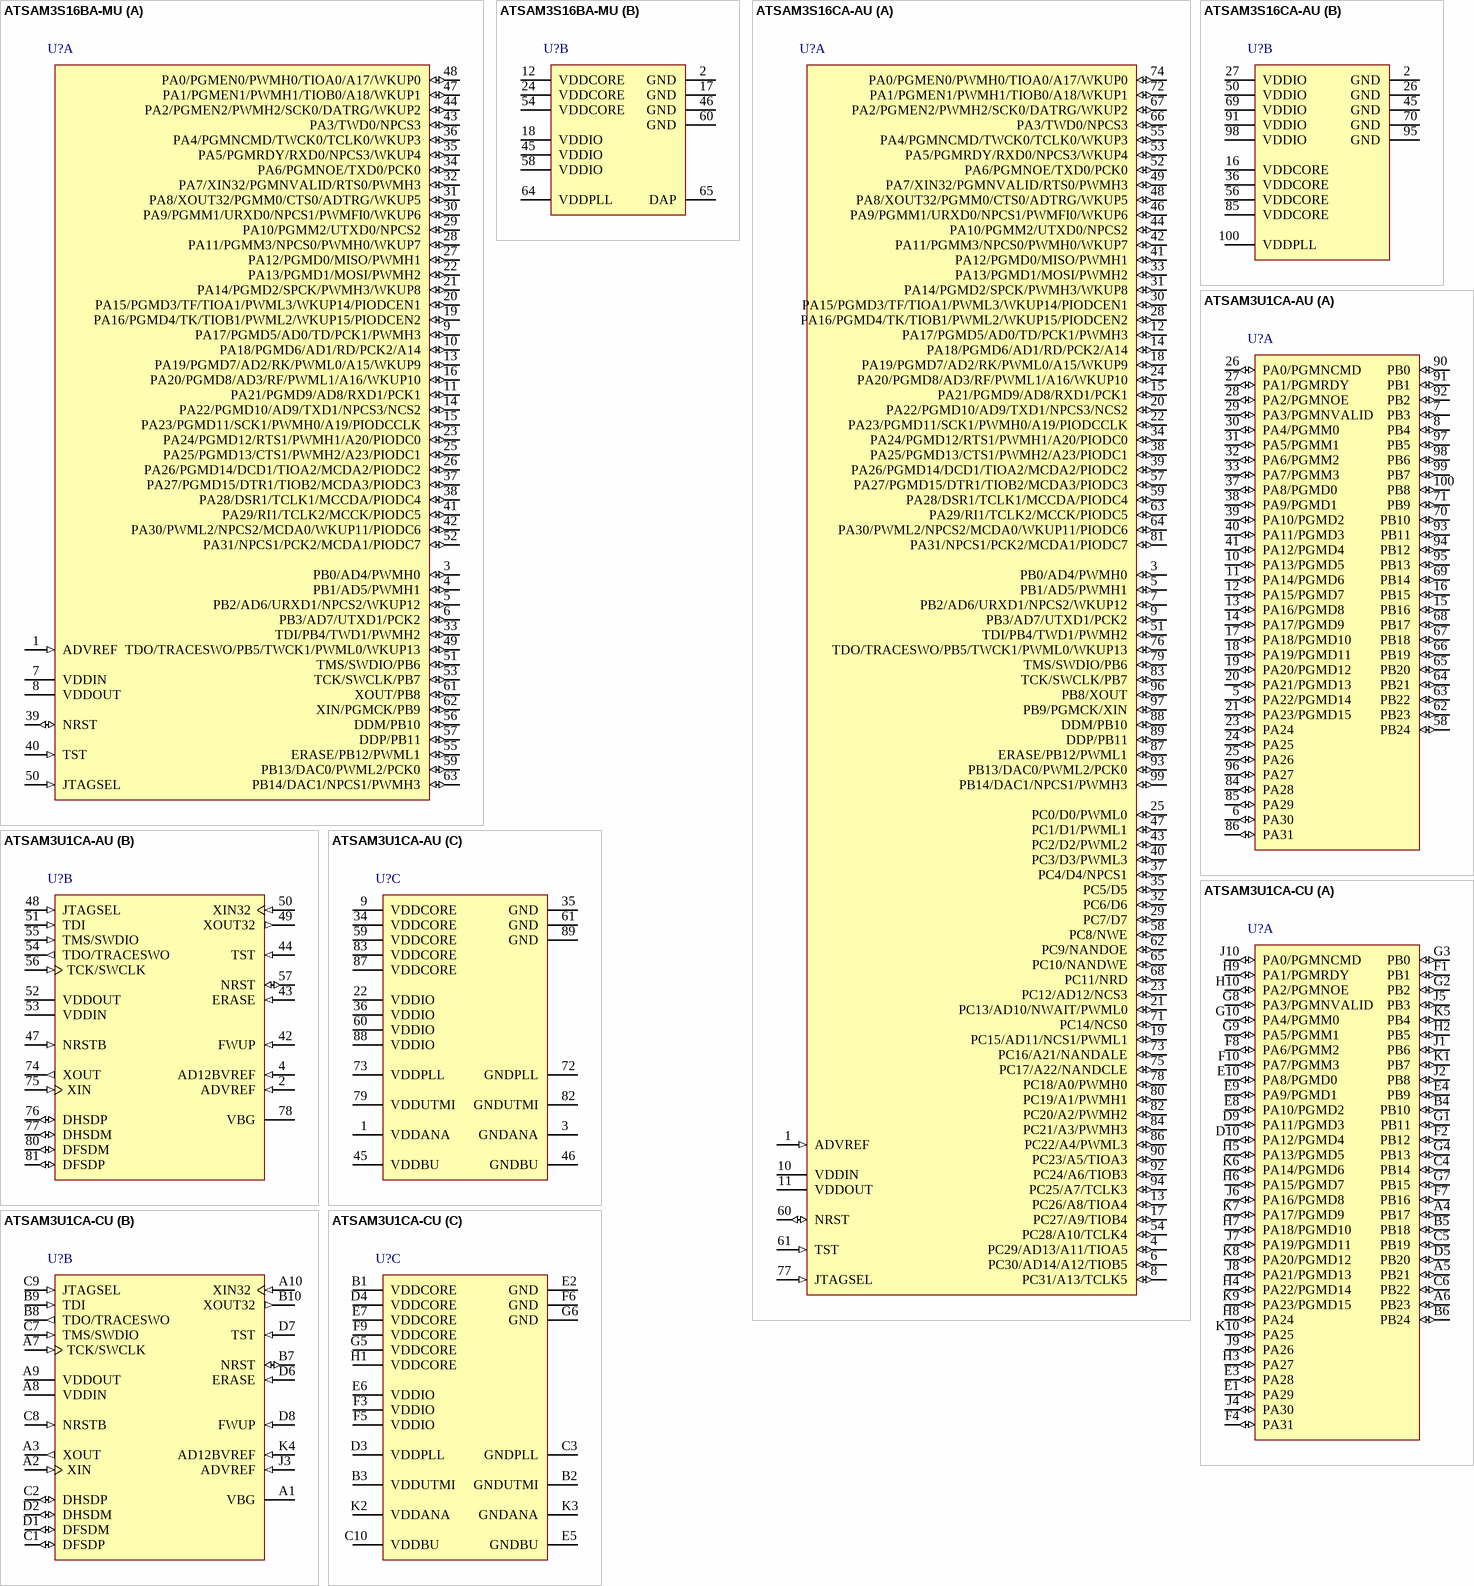
[diagram p58: symbols ATSAM3S16BA-MU to ATSAM3U1CA-CU]